# Altium schematic symbol library ZPWL.SchLib: 160 symbols (part 1 of 2)
Pins are listed as number, name and electrical type; pins without a type are passive.

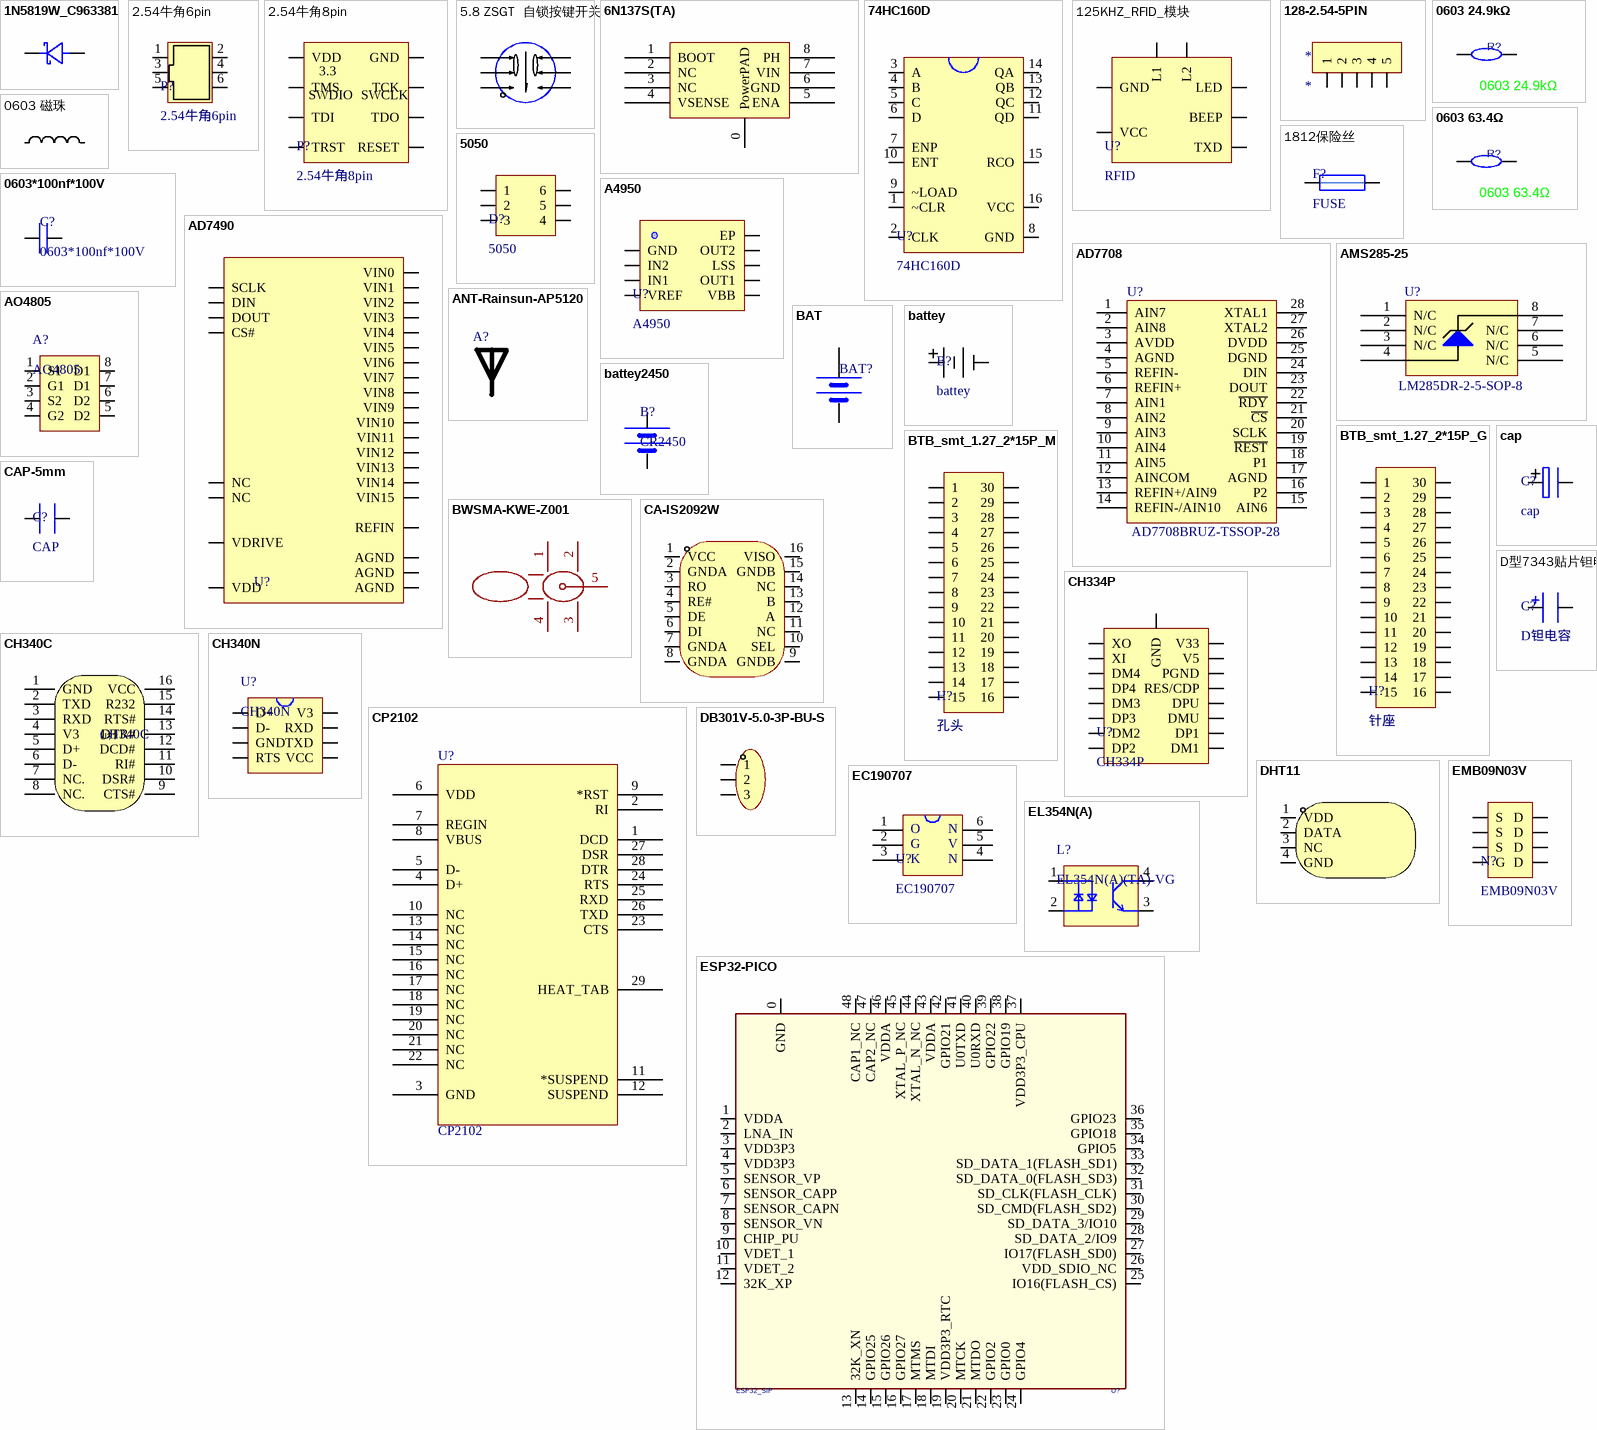
[diagram p0: symbols 1N5819W_C963381 to ESP32-PICO]

## 1N5819W_C963381
designator D??  (value not drawn)
肖特基二极管40V 平均整流电流(Io)：350mA 正向压降(Vf)：600mV@200mA; Manufacturer: JSMSEMI(杰盛微); Add into BOM: yes; Diode Configuration: 独立式; Reverse Voltage (Vr): 40V; Average Rectified Current (Io): 350mA; Reverse Leakage Current (Ir): 5uA@30V; Name: 1N5819W; Symbol: 1N5819W_C963381; Device: 1N5819W_C963381; LCSC Part Name: 40V 350mA 600mV@200mA; Supplier Part: C963381; Manufacturer Part: 1N5819W; Supplier Footprint: SOD-123; JLCPCB Part Class: Extended Part; Datasheet: https://atta.szlcsc.com/upload/public/pdf/source/20211201/C266112E93E924DFE0C071C9A8E85281.pdf; Supplier: LCSC; Convert to PCB: yes; Forward Voltage (Vf@If): 600mV@200mA
footprint SOD-123_L2.7-W1.6-LS3.7-R-RD
3D model SOD-123_L2.7-W1.6-H1.2-LS3.7-R-RD
pins: 1 A, 2 C

## 2.54牛角6pin
designator P?
footprint DC-6pin-2.54
pins: 1 ~{O}E, 2 ~{O}E, 3 ~{O}E, 4 ~{O}E, 5 ~{O}E, 6 ~{O}E

## 2.54牛角8pin
designator P?
footprint DC-8pin-2.54
footprint DC-8pin-2.54_SMT
pins: 1 VDD, 2 TMS, 3 TDI, 4 TRST, 5 RESET, 6 TDO, 7 TCK, 8 GND
text: 3.3; SWDIO; SWCLK

## 5.8 ZSGT  自锁按键开关
designator SW?, comment 5.8 ZSGT  (value not drawn)
额定电压 (DC)：30V 电路结构：双刀双掷 安装方式：直插 自锁/无锁：自锁; Manufacturer: SHOU HAN(首韩); Add into BOM: yes; Contact Current: 110mA; Voltage Rating (DC): 30V; Insulation Resistance: 100MΩ; Circuit: 双刀双掷; Self Lock / No Lock: 自锁; Actuator Style: 方形按钮; Actuator/Cap Color: 白色; With Lamp: 无; Pin Style: PC引脚; Operating Force: 150gf@±50gf; Mechanical Life: 100000; Name: 5.8 ZSGT; Symbol: 5.8 ZSGT; Device: 5.8 ZSGT; LCSC Part Name: 5.8*5.8有头/高头 带锁/自锁开关 泡泡机开关; Supplier Part: C2681587; Manufacturer Part: 5.8 ZSGT; Supplier Footprint: 插件; JLCPCB Part Class: Extended Part; Datasheet: https://atta.szlcsc.com/upload/public/pdf/source/20210107/C2681587_CDDDDA4A1C7AC9FEB01815B75893A6BA.pdf; Supplier: LCSC; Convert to PCB: yes; Mounting Style: 直插; Operating Temperature: -10℃~+70℃
footprint SW-TH_5.8ZSGT
pins: 1, 2, 3, 4, 5, 6

## 6N137S(TA)
designator U??  (value not drawn)
DC输入 1通道 隔离电压(rms):5000V; Manufacturer: EVERLIGHT(亿光); Add into BOM: yes; Input Type: DC; Isolation Voltage(rms): 5kV; Common Mode Transient Immunity (CMTI): 5kV/us; Data Rate: 10Mbit/s; Propagation Delay tpLH/tpHL: 75ns；75ns; Number of Channels: 1; Symbol: 6N137S(TA); Device: 6N137S(TA); LCSC Part Name: DC输入 1通道 隔离电压(rms):5000V; Supplier Part: C16496; Manufacturer Part: 6N137S(TA); Supplier Footprint: SOP-8-2.54mm; JLCPCB Part Class: Extended Part; Datasheet: https://atta.szlcsc.com/upload/public/pdf/source/20130927/1457706651778.pdf; Supplier: LCSC; Convert to PCB: yes; Supply Voltage: -; Operating Temperature: -40℃~+85℃
footprint SMD-8_L9.8-W6.6-P2.54-LS10.3-BL
pins: 0 PowerPAD, 1 BOOT, 2 NC, 3 NC, 4 VSENSE, 5 ENA, 6 GND, 7 VIN, 8 PH

## 74HC160D
designator U?
计数器，十进制
footprint SOIC-16_208mil
pins: 1 ~CLR, 2 CLK, 3 A, 4 B, 5 C, 6 D, 7 ENP, 8 GND, 9 ~LOAD, 10 ENT, 11 QD, 12 QC, 13 QB, 14 QA, 15 RCO, 16 VCC

## 125KHZ_RFID_模块
designator U?, comment RFID
footprint 125KHZ_RFID
pins: 1 GND, 2 VCC, 3 TXD, 4 LED, 5 BEEP, 6 L1, 7 L2

## 128-2.54-5PIN
designator *
footprint 128-2354-5pin
pins: 1, 2, 3, 4, 5

## 0603 24.9kΩ
designator R?
0603WAF2492T5E; Symbol: 0603WAF2492T5E; Supplier Part: C25962
footprint R0603
pins: 1, 2

## 0603 63.4Ω
designator R?
0805W8F634JT5E; Symbol: 0805W8F634JT5E; Supplier Part: C17786
footprint R0603
pins: 1, 2

## 0603 磁珠
designator L?, comment MPZ1608S221ATD25  (value not drawn)
220Ω@100MHz / 特性：电源线降噪解决方案。 与MMZ系列相比，具有低直流电阻，适合大电流，低功耗。 5种不同特性的材料，具有多种频率特性，可应对从一般信号到高速信号的各种情况。 在需要低直流电阻的信号线中也能表现出色。 工作温度范围：-55℃至+125℃。应用：各种ECU。 动力系统; Symbol: MPZ1608S221ATD25; Supplier Part: C307771
footprint L0603
pins: 1, 2

## 0603*100nf*100V
designator C?
CL10B104KC8NNNC; Supplier Part: C15725
footprint L0603
pins: 1, 2

## 1812保险丝
designator F?, comment FUSE
footprint 1812_R
pins: 1, 2

## 5050
designator D?
footprint 5050
pins: 1, 2, 3, 4, 5, 6

## A4950
designator U?
电机驱动; SuppliersPartNumber: C82404
footprint SOIC-8_EP_150mil
pins: 0 EP, 1 GND, 2 IN2, 3 IN1, 4 VREF, 5 VBB, 6 OUT1, 7 LSS, 8 OUT2

## AD7490
designator U?  (value not drawn)
集成电路-数模转换器
footprint TSSOP-28
pins: 1 VIN11, 2 VIN10, 3 VIN9, 4 NC, 5 VIN8, 6 VIN7, 7 VIN6, 8 VIN5, 9 VIN4, 10 VIN3, 11 VIN2, 12 VIN1, 13 VIN0, 14 AGND, 15 DOUT, 16 SCLK, 17 VDRIVE, 18 NC, 19 DIN, 20 CS#, 21 AGND, 22 VDD, 23 REFIN, 24 AGND, 25 VIN15, 26 VIN14, 27 VIN13, 28 VIN12

## AD7708
designator U?  value AD7708BRUZ-TSSOP-28  (hidden comment: AD7708)
集成电路-数模转换器; ERP: 19LJ082083A
footprint SSOP-28_150mil
pins: 1 AIN7, 2 AIN8, 3 AVDD, 4 AGND, 5 REFIN-, 6 REFIN+, 7 AIN1, 8 AIN2, 9 AIN3, 10 AIN4, 11 AIN5, 12 AINCOM, 13 REFIN+/AIN9, 14 REFIN-/AIN10, 15 AIN6, 16 P2, 17 AGND, 18 P1, 19 ~{REST}, 20 SCLK, 21 ~{CS}, 22 ~{RDY}, 23 DOUT, 24 DIN, 25 DGND, 26 DVDD, 27 XTAL2, 28 XTAL1

## AMS285-25
designator U?  value LM285DR-2-5-SOP-8  (hidden comment: AMS285-25)
贴片集成电路-2.5V基准源; ERP: 19LJ082079A
footprint SOIC-8_150mil
pins: 1 N/C, 2 N/C, 3 N/C, 4 D, 5 N/C, 6 N/C, 7 N/C, 8 +

## ANT-Rainsun-AP5120
designator A?, comment RAINSUN  (value not drawn)
贴片天线
footprint ANT-Rainsun-AN5120 (选择焊盘)
pins: 1

## AO4805
designator A?
footprint SOP-8
pins: 1 S1, 2 G1, 3 S2, 4 G2, 5 D2, 6 D2, 7 D1, 8 D1

## BAT
designator BAT?, comment BATT  (value not drawn)
2032
footprint BATM (BAT)
footprint BATM
pins: 1 VCC, 2 GND

## battey
designator B?
CR1220
footprint CR1220
pins: 1 +, 2 +

## battey2450
designator B?, comment CR2450
footprint CR2450 (直插纽扣电池封装)
pins: 1 VCC, 2 GND

## BTB_smt_1.27_2*15P_G
designator H?, comment 针座
BTB_smt_1.27_2*15P 针座; ComponentLink1Description: New link; ComponentLink1URL: https://item.taobao.com/item.htm?from=cart&id=723987452082&mi_id=0000uzHv_H4SZEBBZJydBcNrsa2I-JF1swYo3iQjQCC8BbU&skuId=5033511081840&spm=a1z0d.6639537%2F202410.item.d723987452082.33ab74840d0S1b&upStreamPrice=140
footprint header_2*15p_1.27mm_g (公座)
pins: 1, 2, 3, 4, 5, 6, 7, 8, 9, 10, 11, 12, 13, 14, 15, 16, 17, 18, 19, 20, 21, 22, 23, 24, 25, 26, 27, 28, 29, 30

## BTB_smt_1.27_2*15P_M
designator H?, comment 孔头
BTB_smt_1.27_2*15P 孔头; ComponentLink1Description: New link; ComponentLink1URL: https://item.taobao.com/item.htm?from=cart&id=723987452082&mi_id=0000uzHv_H4SZEBBZJydBcNrsa2I-JF1swYo3iQjQCC8BbU&skuId=5033511081840&spm=a1z0d.6639537%2F202410.item.d723987452082.33ab74840d0S1b&upStreamPrice=140
footprint header_2*15p_1.27mm_m (母头)
pins: 1, 2, 3, 4, 5, 6, 7, 8, 9, 10, 11, 12, 13, 14, 15, 16, 17, 18, 19, 20, 21, 22, 23, 24, 25, 26, 27, 28, 29, 30

## BWSMA-KWE-Z001
designator RF?  (value not drawn)
SMA头子 直脚弯头 板端座子 天线连接座 0.15dB(6GHz)插入损耗; Symbol: BWSMA-KWE-Z001; Supplier Part: C496551
footprint SMA-TH_BWSMA-KWE-Z001
pins: 1, 2, 3, 4, 5

## CA-IS2092W
designator U??  (value not drawn)
CA-IS2092W 集成隔离电源的隔离式 RS-485/RS-422 收发器3.3V；5V; Manufacturer: Chipanalog(川土微); Add into BOM: yes; Symbol: CA-IS2092W; Device: CA-IS2092W; LCSC Part Name: CA-IS2092W 集成隔离电源的隔离式 RS-485/RS-422 收发器; Supplier Part: C5121950; Manufacturer Part: CA-IS2092W; Supplier Footprint: SOIC-16-WB; JLCPCB Part Class: Extended Part; Datasheet: https://atta.szlcsc.com/upload/public/pdf/source/20220728/B78FE10BFEDFECC3280DFE09048A40B7.pdf; Supplier: LCSC; Convert to PCB: yes
footprint SOIC-16_L10.3-W7.5-P1.27-LS10.3-BL-1
pins: 1 VCC, 2 GNDA, 3 RO, 4 RE#, 5 DE, 6 DI, 7 GNDA, 8 GNDA, 9 GNDB, 10 SEL, 11 NC, 12 A, 13 B, 14 NC, 15 GNDB, 16 VISO

## cap
designator C?
电容 贴插
footprint cap
pins: 1, 2

## CAP-5mm
designator C?, comment CAP
金属化聚酯薄膜电容
footprint 金属化聚酯薄膜电容
pins: 1, 2

## CH334P
designator U?
CH334和CH335是符合USB2.0协议规范的4端口USBHUB控制器芯片，上行端口支持USB2.0高速和全速，下行端口支持USB2.0高速480Mbps、全速12Mbps和低速1.5Mbps。; Supplier Part: C5373042
footprint QFN-16_3x3x05P (QFN, 16-Leads, Body 3.00x3.00mm, Pitch 0.50mm, Thermal Pad 1.70x1.70mm, IPC Medium Density)
pins: 1 XO, 2 XI, 3 DM4, 4 DP4, 5 DM3, 6 DP3, 7 DM2, 8 DP2, 9 DM1, 10 DP1, 11 DMU, 12 DPU, 13 RES/CDP, 14 PGND, 15 V5, 16 V33, 17 GND

## CH340C
designator U??
USB 2.0 数据速率：2Mbps USB转串口芯片 CH340; Manufacturer: WCH(南京沁恒); Add into BOM: yes; Applications Function: 收发器; Protocol: USB 2.0; Data Rate: 2Mbps; Supply Voltage: 3.3V；5V; Name: CH340C; Symbol: CH340C; Device: CH340C; LCSC Part Name: CH340C USB转串口芯片 CH340; Supplier Part: C84681; Manufacturer Part: CH340C; Supplier Footprint: SOP-16; JLCPCB Part Class: Extended Part; Datasheet: https://atta.szlcsc.com/upload/public/pdf/source/20200819/C84681_ADBED554CE321879DBD6B1D06488689C.pdf; Supplier: LCSC; Convert to PCB: yes
footprint SOP-16_L10.0-W3.9-P1.27-LS6.0-BL
3D model SOP-16_L9.9-W3.9-H1.5-LS6.0-P1.27
pins: 1 GND, 2 TXD, 3 RXD, 4 V3, 5 D+, 6 D-, 7 NC., 8 NC., 9 CTS#, 10 DSR#, 11 RI#, 12 DCD#, 13 DTR#, 14 RTS#, 15 R232, 16 VCC

## CH340N
designator U?
8引脚 USB 转TTL
footprint SOP-8
pins: 1 D+, 2 D-, 3 GND, 4 RTS, 5 VCC, 6 TXD, 7 RXD, 8 V3

## CP2102
designator U?
USB转TTL; PART DESC: SINGLE-CHIP USB TO UART BRIDGE, QFN28, RoHS.; MFG #1: SILICON LABS; PART NUMBER: CP2102; RefDes: RefDes; Type: DEV; SuppliersPartNumber: C964632
footprint QFN-28
pins: 1 DCD, 2 RI, 3 GND, 4 D+, 5 D-, 6 VDD, 7 REGIN, 8 VBUS, 9 *RST, 10 NC, 11 *SUSPEND, 12 SUSPEND, 13 NC, 14 NC, 15 NC, 16 NC, 17 NC, 18 NC, 19 NC, 20 NC, 21 NC, 22 NC, 23 CTS, 24 RTS, 25 RXD, 26 TXD, 27 DSR, 28 DTR, 29 HEAT_TAB

## DB301V-5.0-3P-BU-S
designator U??  (value not drawn)
5mm 结构：1x3P; Manufacturer: DIBO(地博电气); Add into BOM: yes; Structure: 1x3P; Number of PINs Per Row: 3; Current Rating (Max): 17.5A; Voltage Rating (Max): 250V; Wire Gauge - AWG: 14~22; Wire Gauge - mm2: 1.5; Name: DB301V-5.0-3P-BU-S; Symbol: DB301V-5.0-3P; Device: DB301V-5.0-3P-BU-S; LCSC Part Name: 5mm 1x3P 排数:1 每排P数:3 直针; Supplier Part: C395881; Manufacturer Part: DB301V-5.0-3P-BU-S; Supplier Footprint: 插件,P=5mm; JLCPCB Part Class: Extended Part; Datasheet: https://atta.szlcsc.com/upload/public/pdf/source/20230321/D511151DA9A574FE7610C3CBEF6C1AC3.pdf; Supplier: LCSC; Convert to PCB: yes; Pitch: 5mm; Number of Rows: 1; Mounting Style: 直针; Operating Temperature Range: -40℃~+120℃; Color: 蓝色; Number of Pins: 3P
footprint CONN-TH_DB301V-5.0-3P
3D model CONN-TH_DB301V-5.0-3P
pins: 1, 2, 3

## DHT11
designator U??  (value not drawn)
温湿度传感器; Manufacturer: 广州奥松; Add into BOM: yes; Name: DHT11; Symbol: DHT11; Device: DHT11; LCSC Part Name: DHT11  电容式传感器; Supplier Part: C117051; Manufacturer Part: DHT11; Supplier Footprint: SIP-4; JLCPCB Part Class: Extended Part; Datasheet: https://atta.szlcsc.com/upload/public/pdf/source/20170703/1499081238365.pdf; Supplier: LCSC; Convert to PCB: yes
footprint SENSOR-TH_DHT11
3D model SENSOR-TH_DHT11
pins: 1 VDD, 2 DATA, 3 NC, 4 GND

## D型7343贴片钽电容
designator C?, comment D钽电容
footprint CASE-D_7343
pins: 1, 2

## EC190707
designator U?
开关机芯片
footprint SOT-23-6
pins: 1 OUT, 2 GND, 3 KEY, 4 NC, 5 VDD, 6 NC
text: O; N; G; V; K

## EL354N(A)
designator L?, comment EL354N(A)(TA)-VG
交流光耦; Supplier: LC; ComponentLink1Description: New link; ComponentLink1URL: https://item.szlcsc.com/44305078.html?fromZone=s_s__%2522%25E4%25BA%25A4%25E6%25B5%2581%25E5%2585%2589%25E8%2580%25A6%2522&spm=sc.gbn.xh1.zy.t&lcsc_vid=QwQLVlRfEVcLX1xeTlZYVQBeRAMLUwFUEwRYUgVfRAQxVlNQQVJXUFRXQlZcUzsOAxUeFF5JWBIBSRccGwIdBEoFGAxBAAgJFQACSQwSGg0%3D; SuppliersPartNumber: C42384996
footprint SOP-4_P2.54
pins: 1, 2, 3, 4

## EMB09N03V
designator N?
N沟道 30V 20A
footprint EDFN(3x3)
pins: 1 S, 2 S, 3 S, 4 G, 5 D, 6 D, 7 D, 8 D

## ESP32-PICO
designator U?, comment ESP32_SIP
贴片处理器ESP32
footprint QFN-48_7X7
pins: 0 GND (power), 1 VDDA (power), 2 LNA_IN, 3 VDD3P3 (power), 4 VDD3P3 (power), 5 SENSOR_VP, 6 SENSOR_CAPP, 7 SENSOR_CAPN, 8 SENSOR_VN, 9 CHIP_PU, 10 VDET_1, 11 VDET_2, 12 32K_XP, 13 32K_XN, 14 GPIO25, 15 GPIO26, 16 GPIO27, 17 MTMS, 18 MTDI, 19 VDD3P3_RTC (power), 20 MTCK, 21 MTDO, 22 GPIO2, 23 GPIO0, 24 GPIO4, 25 IO16(FLASH_CS), 26 VDD_SDIO_NC, 27 IO17(FLASH_SD0), 28 SD_DATA_2/IO9, 29 SD_DATA_3/IO10, 30 SD_CMD(FLASH_SD2), 31 SD_CLK(FLASH_CLK), 32 SD_DATA_0(FLASH_SD3), 33 SD_DATA_1(FLASH_SD1), 34 GPIO5, 35 GPIO18, 36 GPIO23, 37 VDD3P3_CPU (power), 38 GPIO19, 39 GPIO22, 40 U0RXD (power), 41 U0TXD (power), 42 GPIO21, 43 VDDA (power), 44 XTAL_N_NC, 45 XTAL_P_NC, 46 VDDA (power), 47 CAP2_NC, 48 CAP1_NC

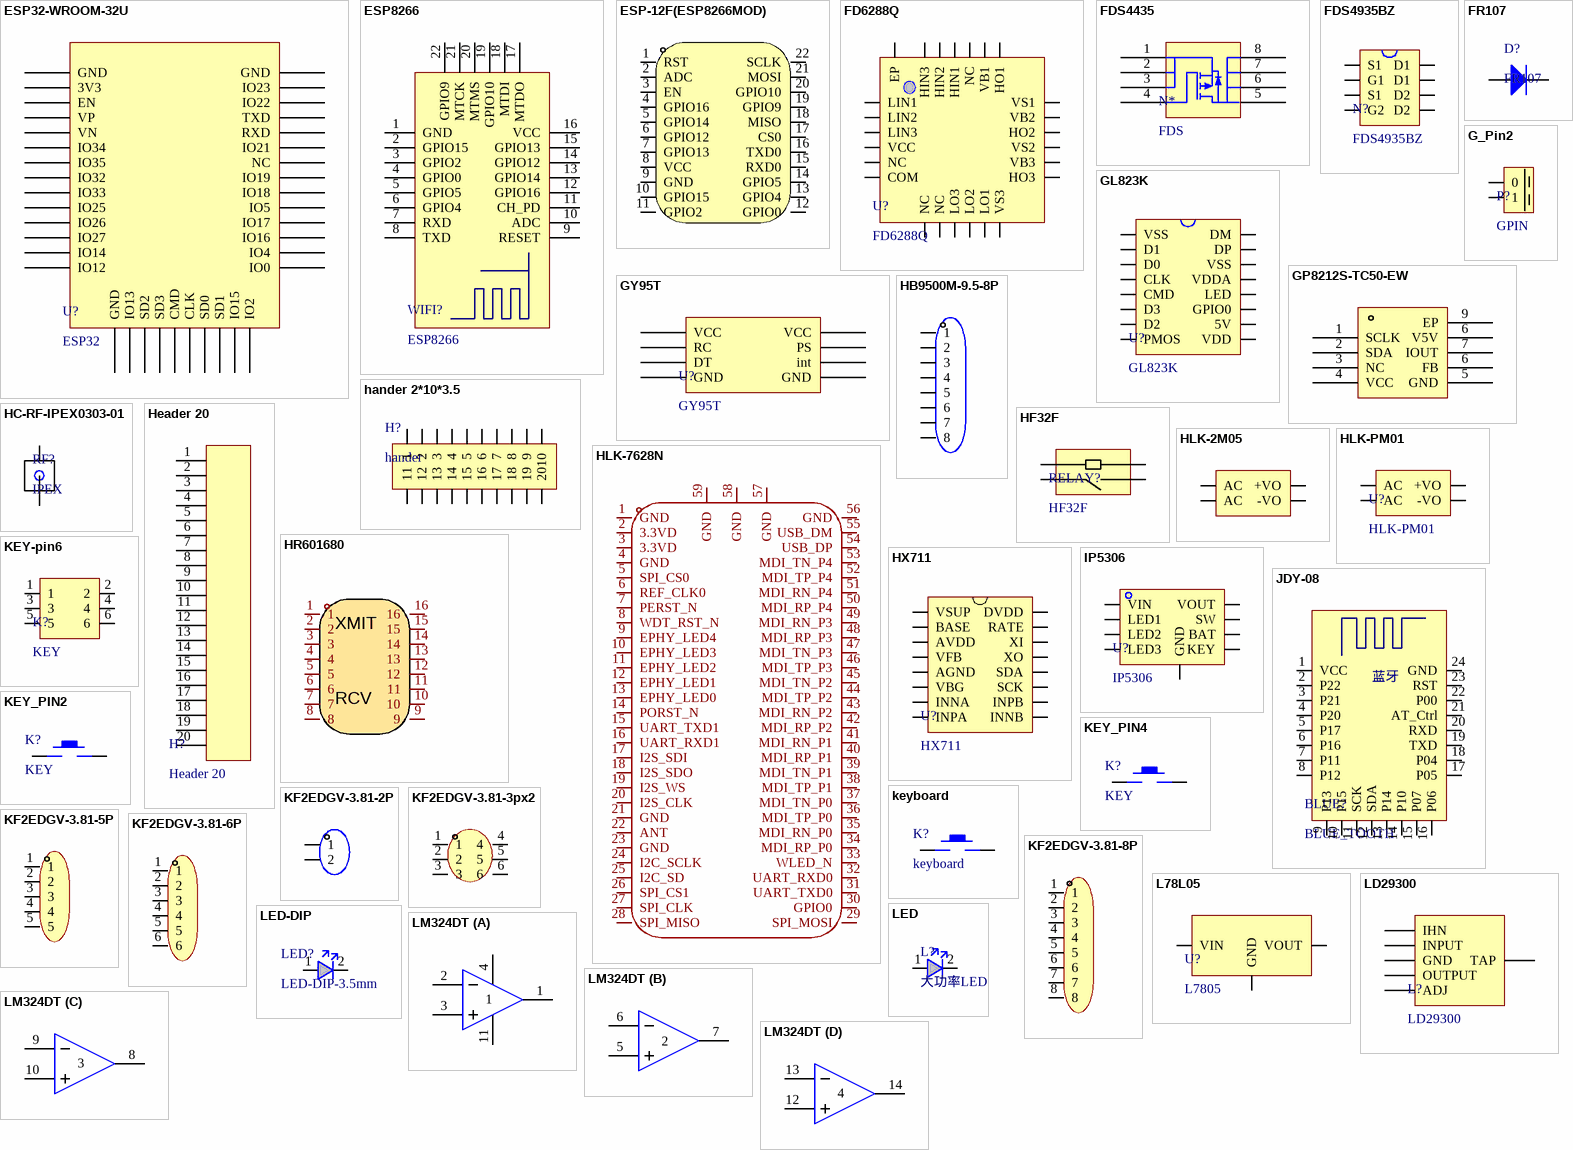
[diagram p1: symbols ESP32-WROOM-32U to LM324DT]

## ESP32-WROOM-32U
designator U?, comment ESP32
ESP32-模块
footprint ESP32-WROOM-32U
pins: 1 GND, 2 3V3, 3 EN, 4 VP, 5 VN, 6 IO34, 7 IO35, 8 IO32, 9 IO33, 10 IO25, 11 IO26, 12 IO27, 13 IO14, 14 IO12, 15 GND, 16 IO13, 17 SD2, 18 SD3, 19 CMD, 20 CLK, 21 SD0, 22 SD1, 23 IO15, 24 IO2, 25 IO0, 26 IO4, 27 IO16, 28 IO17, 29 IO5, 30 IO18, 31 IO19, 32 NC, 33 IO21, 34 RXD, 35 TXD, 36 IO22, 37 IO23, 38 GND

## ESP8266
designator WIFI?
footprint ESP8266
pins: 1 GND, 2 GPIO15, 3 GPIO2, 4 GPIO0, 5 GPIO5, 6 GPIO4, 7 RXD, 8 TXD, 9 RESET, 10 ADC, 11 CH_PD, 12 GPIO16, 13 GPIO14, 14 GPIO12, 15 GPIO13, 16 VCC, 17 MTDO, 18 MTDI, 19 GPIO10, 20 MTMS, 21 MTCK, 22 GPIO9

## ESP-12F(ESP8266MOD)
designator U??  (value not drawn)
ESP8266 天线形式：板载PCB天线; Manufacturer: Ai-Thinker(安信可); Name: 2.4GHz; Add into BOM: yes; Value: 2.4GHz; Output Power: 16dBm; Support Interface: GPIO；UART；I2C；PWM；SPI；ADC; Antenna Type: PCB 板载天线; Wireless Standard: 802.11b/g/n; Operating Voltage: 3.3V; Receive  Current: 120mA; Send  Current: 170mA; Sensitivity: -90dBm; Symbol: ESP-12F(ESP8266MOD); Device: ESP-12F(ESP8266MOD); LCSC Part Name: 完整的802.11b/g/n Wi-Fi的SoC模块; Supplier Part: C82891; Manufacturer Part: ESP-12F(ESP8266MOD); Supplier Footprint: SMD,16x24mm; JLCPCB Part Class: Extended Part; Datasheet: https://atta.szlcsc.com/upload/public/pdf/source/20210219/C82891_ABD84A460F4F056A2757267CCCA4B508.pdf; Supplier: LCSC; Convert to PCB: yes; Core Processor: ESP8266; Operating Temperature: -40℃~+85℃
footprint WIFIM-SMD_ESP-12F-ESP8266MOD
3D model WIFIM-SMD_WIFI-L24.0-W16.0-H3.1
pins: 1 RST, 2 ADC, 3 EN, 4 GPIO16, 5 GPIO14, 6 GPIO12, 7 GPIO13, 8 VCC, 9 GND, 10 GPIO15, 11 GPIO2, 12 GPIO0, 13 GPIO4, 14 GPIO5, 15 RXD0, 16 TXD0, 17 CS0, 18 MISO, 19 GPIO9, 20 GPIO10, 21 MOSI, 22 SCLK

## FD6288Q
designator U?
三相栅极驱动器
footprint QFN24
pins: 1 LIN1, 2 LIN2, 3 LIN3, 4 VCC, 5 NC, 6 COM, 7 NC, 8 NC, 9 LO3, 10 LO2, 11 LO1, 12 VS3, 13 HO3, 14 VB3, 15 VS2, 16 HO2, 17 VB2, 18 VS1, 19 HO1, 20 VB1, 21 NC, 22 HIN1, 23 HIN2, 24 HIN3, 25 EP

## FDS4435
designator N*, comment FDS
P沟道 场效应管
footprint SOP-8
pins: 1, 2, 3, 4, 5, 6, 7, 8

## FDS4935BZ
designator N?
双P沟道
footprint SOIC-8_150mil
pins: 1 S1, 2 G1, 3 S1, 4 G2, 5 D2, 6 D2, 7 D1, 8 D1

## FR107
designator D?
快恢复二级管
footprint DO-41(400mils) (DO-41)
footprint SOD123FL
pins: 1 A, 2 K

## G_Pin2
designator P?, comment GPIN
footprint G_Pin2
pins: 0, 1

## GL823K
designator U?
GL823K 是一款 USB 2.0 单 LUN 卡读取控制器，支持多种闪存卡接口。; Supplier Part: C284879
footprint SSOP-16_150mil
pins: 1 VSS, 2 D1, 3 D0, 4 CLK, 5 CMD, 6 D3, 7 D2, 8 PMOS, 9 VDD, 10 5V, 11 GPIO0, 12 LED, 13 VDDA, 14 VSS, 15 DP, 16 DM

## GP8212S-TC50-EW
designator U?  (value not drawn)
I2C信号转模拟信号转换器,将数据线性转换成4-20mA/0-20mA的模拟电流输出; Manufacturer: Guestgood(客益); Add into BOM: yes; Symbol: GP8212S-TC50-EW; Device: GP8212S-TC50-EW; LCSC Part Name: I2C信号转模拟电流信号; Supplier Part: C3152009; Manufacturer Part: GP8212S-TC50-EW; Supplier Footprint: ESOP-8; JLCPCB Part Class: Extended Part; Datasheet: https://atta.szlcsc.com/upload/public/pdf/source/20230222/C8174B632BCF97C38C08BC64AAE9B7A8.pdf; Supplier: LCSC; Convert to PCB: yes
footprint ESOP-8_L4.9-W3.9-P1.27-LS6.0-BL-EP
pins: 1 SCLK, 2 SDA, 3 NC, 4 VCC, 5 GND, 6 V5V, 6 FB, 7 IOUT, 9 EP

## GY95T
designator U?
三轴陀螺仪
footprint GY95T (三轴陀螺仪)
pins: 1 VCC, 2 RC, 3 DT, 4 GND, 5 GND, 6 int, 7 PS, 8 VCC

## hander 2*10*3.5
designator H?, comment hander
footprint 10*2-3.5
pins: 1, 2, 3, 4, 5, 6, 7, 8, 9, 10, 11, 12, 13, 14, 15, 16, 17, 18, 19, 20

## HB9500M-9.5-8P
designator U?  (value not drawn)
隔板类型：带盖板 间距：9.5mm 结构：1x8P 每排PIN数：8 排数：1 安装方式：直针 引脚位置：边脚 额定电流：32A 额定电压：750V 线规 - AWG：12~22 线规 - mm2：4 工作温度范围：-40℃~+105℃ 颜色：黑色; Barrier Type: 带盖板; Pitch: 9.5mm; Structure: 1x8P; Current Rating (Max): 32A; Voltage Rating (Max): 750V; Wire Gauge - AWG: 12~22; Device: HB9500M-9.5-8P; LCSC Part Name: 9.5mm 1x8P 每排P数:8 排数:1 直针 边脚; Supplier Part: C315245; Supplier Footprint: 插件,P=9.5mm; Mounting Style: 直针; Operating Temperature Range: -40℃~+105℃
footprint HB9500M-9.5-8P
pins: 1, 2, 3, 4, 5, 6, 7, 8

## HC-RF-IPEX0303-01
designator RF?, comment IPEX
IPEX 天线座
footprint IPEX-SMD_HC-RF-IPEX0303-01
pins: 1 GND, 4 GND

## Header 20
designator H?
footprint FPC-1.0-20P
pins: 1, 2, 3, 4, 5, 6, 7, 8, 9, 10, 11, 12, 13, 14, 15, 16, 17, 18, 19, 20

## HF32F
designator RELAY?
继电器; SuppliersPartNumber: C192283
footprint RELAY-TH_HF32F-X-HXXXX-XXX
pins: 1, 2, 3, 4

## HLK-2M05
designator U?  (value not drawn)
AC-DC 5V 400mA 2W; Manufacturer: HI-LINK(海凌科); Add into BOM: yes; Function: 降压型; Isolated Or Voltage Regulation: 隔离稳压; Output Channel: 1; Input Voltage(AC): 90VAC~265VAC; Input Voltage(DC): 120V~350V; Insulated Voltage: 3kV@AC; Conversion Efficiency: 69%; Name: HLK-2M05; Symbol: HLK-2M05; Device: HLK-2M05; LCSC Part Name: AC-DC 输入90VAC~265VAC 输入120V~350V 输出5V 400mA 2W; Supplier Part: C209909; Manufacturer Part: HLK-2M05; Supplier Footprint: 插件; JLCPCB Part Class: Extended Part; Datasheet: https://atta.szlcsc.com/upload/public/pdf/source/20211130/BB6CF3554B3927EB762928BD287CEFEE.pdf; Supplier: LCSC; Convert to PCB: yes; Conversion Type: AC-DC; Output Voltage: 5V; Output Current (Max): 400mA; Output Power: 2W; Feature: 过流保护；短路保护
footprint HLK-2M05
pins: 1 AC, 2 AC, 3 -VO, 4 +VO

## HLK-7628N
designator U?  (value not drawn)
百兆路由芯片; Symbol: HLK-7628N; Supplier Part: C209920
footprint 7628N
pins: 1 GND, 2 3.3VD, 3 3.3VD, 4 GND, 5 SPI_CS0, 6 REF_CLK0, 7 PERST_N, 8 WDT_RST_N, 9 EPHY_LED4, 10 EPHY_LED3, 11 EPHY_LED2, 12 EPHY_LED1, 13 EPHY_LED0, 14 PORST_N, 15 UART_TXD1, 16 UART_RXD1, 17 I2S_SDI, 18 I2S_SDO, 19 I2S_WS, 20 I2S_CLK, 21 GND, 22 ANT, 23 GND, 24 I2C_SCLK, 25 I2C_SD, 26 SPI_CS1, 27 SPI_CLK, 28 SPI_MISO, 29 SPI_MOSI, 30 GPIO0, 31 UART_TXD0, 32 UART_RXD0, 33 WLED_N, 34 MDI_RP_P0, 35 MDI_RN_P0, 36 MDI_TP_P0, 37 MDI_TN_P0, 38 MDI_TP_P1, 39 MDI_TN_P1, 40 MDI_RP_P1, 41 MDI_RN_P1, 42 MDI_RP_P2, 43 MDI_RN_P2, 44 MDI_TP_P2, 45 MDI_TN_P2, 46 MDI_TP_P3, 47 MDI_TN_P3, 48 MDI_RP_P3, 49 MDI_RN_P3, 50 MDI_RP_P4, 51 MDI_RN_P4, 52 MDI_TP_P4, 53 MDI_TN_P4, 54 USB_DP, 55 USB_DM, 56 GND, 57 GND, 58 GND, 59 GND

## HLK-PM01
designator U?
AC-DC 5V 600mA 3W; SuppliersPartNumber: C209903
footprint HLK-PM01
pins: 1 AC, 2 AC, 3 -VO, 4 +VO

## HR601680
designator L?
网口变压器; Symbol: HR601680
footprint XFMR-SMD_BT16XX
pins: 1, 2, 3, 4, 5, 6, 7, 8, 9, 10, 11, 12, 13, 14, 15, 16
text: XMIT; RCV

## HX711
designator U?
差分 ADC传感器; SuppliersPartNumber: C43656
footprint SOP-16_150mil
pins: 1 VSUP, 2 BASE, 3 AVDD, 4 VFB, 5 AGND, 6 VBG, 7 INNA, 8 INPA, 9 INNB, 10 INPB, 11 SCK, 12 SDA, 13 XO, 14 XI, 15 RATE, 16 DVDD

## IP5306
designator U?
充电宝芯片
footprint SOIC-8_EP_150mil
pins: 0 GND, 1 VIN, 2 LED1, 3 LED2, 4 LED3, 5 KEY, 6 BAT, 7 SW, 8 VOUT

## JDY-08
designator BLUE?, comment BLUE_TOOTH
蓝牙
footprint CC2541
pins: 1 VCC, 2 P22, 3 P21, 4 P20, 5 P17, 6 P16, 7 P11, 8 P12, 9 P13, 10 P15, 11 SCK, 12 SDA, 13 P14, 14 P10, 15 P07, 16 P06, 17 P05, 18 P04, 19 TXD, 20 RXD, 21 AT_Ctrl, 22 P00, 23 RST, 24 GND

## KEY-pin6
designator K?, comment KEY
自锁 6脚
footprint key3
pins: 1, 2, 3, 4, 5, 6

## KEY_PIN2
designator K?, comment KEY
微动 贴片2脚
footprint KEY2
footprint KEY_贴片_pin4
pins: 1, 2

## KEY_PIN4
designator K?, comment KEY
微动按键开关 4脚
footprint KEY1
footprint KEY-12*12-pin4
pins: 1, 2

## keyboard
designator K?
橡胶按键
footprint keyboard
pins: 1, 2

## KF2EDGV-3.81-2P
designator CN??  (value not drawn)
插拔式接线端子 3.81mm 1x2P 直针; Manufacturer: KEFA(科发); Add into BOM: yes; Connector Type: 板端/插座-闭口; Number of PINs Per Row: 2; Current Rating (Max): 8A; Voltage Rating (Max): 300V; Symbol: KF2EDGV-3.81-2P; Device: KF2EDGV-3.81-2P; LCSC Part Name: 3.81mm 1x2P 排数:1 每排P数:2; Supplier Part: C441332; Manufacturer Part: KF2EDGV-3.81-2P; Supplier Footprint: 插件,P=3.81mm; JLCPCB Part Class: Extended Part; Datasheet: https://atta.szlcsc.com/upload/public/pdf/source/20230331/99AB14A2E5FD5FFB40E14C447652EA65.pdf; Supplier: LCSC; Convert to PCB: yes; Structure: 1x2P; Pitch: 3.81mm; Color: 绿色; Mounting Style: 直针; Number of Pins: 2P; Number of Rows: 1; Operating Temperature Range: -40℃~+105℃
footprint CONN-TH_2P-P3.81_KF2EDGV-3.81-2P
pins: 1, 2

## KF2EDGV-3.81-3px2
designator CN?, comment KF2EDGV-3.81-6P  (value not drawn)
KF2EDGV-3.81-3Px2; Manufacturer: KEFA(科发); Add into BOM: yes; Connector Type: 板端/插座-闭口; Structure: 1x6P; Pitch: 3.81mm; Number of PINs Per Row: 6; Current Rating (Max): 8A; Voltage Rating (Max): 300V; Symbol: KF2EDGV-3.81-6P; Device: KF2EDGV-3.81-6P; LCSC Part Name: 3.81mm 1x6P 排数:1 每排P数:6; Supplier Part: C441336; Manufacturer Part: KF2EDGV-3.81-6P; Supplier Footprint: 插件,P=3.81mm; JLCPCB Part Class: Extended Part; Datasheet: https://atta.szlcsc.com/upload/public/pdf/source/20230331/99AB14A2E5FD5FFB40E14C447652EA65.pdf; Supplier: LCSC; Convert to PCB: yes; Color: 绿色; Mounting Style: 直针; Number of Pins: 6P; Number of Rows: 1; Operating Temperature Range: -40℃~+105℃
footprint CONN-TH_6P-P3.81_KF2EDGV-3.81-3P*2
pins: 1, 2, 3, 4, 5, 6

## KF2EDGV-3.81-5P
designator CN??  (value not drawn)
Manufacturer: KEFA(科发); Add into BOM: yes; Connector Type: 板端/插座-闭口; Structure: 1x5P; Pitch: 3.81mm; Number of PINs Per Row: 5; Current Rating (Max): 8A; Voltage Rating (Max): 300V; Symbol: KF2EDGV-3.81-5P; Device: KF2EDGV-3.81-5P; LCSC Part Name: 3.81mm 1x5P 排数:1 每排P数:5; Supplier Part: C441335; Manufacturer Part: KF2EDGV-3.81-5P; Supplier Footprint: 插件,P=3.81mm; JLCPCB Part Class: Extended Part; Datasheet: https://atta.szlcsc.com/upload/public/pdf/source/20230331/99AB14A2E5FD5FFB40E14C447652EA65.pdf; Supplier: LCSC; Convert to PCB: yes; Color: 绿色; Mounting Style: 直针; Number of Pins: 5P; Number of Rows: 1; Operating Temperature Range: -40℃~+105℃
footprint CONN-TH_5P-P3.81_KF2EDGV-3.81-5P
pins: 1, 2, 3, 4, 5

## KF2EDGV-3.81-6P
designator CN??  (value not drawn)
Manufacturer: KEFA(科发); Add into BOM: yes; Connector Type: 板端/插座-闭口; Structure: 1x6P; Pitch: 3.81mm; Number of PINs Per Row: 6; Current Rating (Max): 8A; Voltage Rating (Max): 300V; Symbol: KF2EDGV-3.81-6P; Device: KF2EDGV-3.81-6P; LCSC Part Name: 3.81mm 1x6P 排数:1 每排P数:6; Supplier Part: C441336; Manufacturer Part: KF2EDGV-3.81-6P; Supplier Footprint: 插件,P=3.81mm; JLCPCB Part Class: Extended Part; Datasheet: https://atta.szlcsc.com/upload/public/pdf/source/20230331/99AB14A2E5FD5FFB40E14C447652EA65.pdf; Supplier: LCSC; Convert to PCB: yes; Color: 绿色; Mounting Style: 直针; Number of Pins: 6P; Number of Rows: 1; Operating Temperature Range: -40℃~+105℃
footprint CONN-TH_6P-P3.81_KF2EDGV-3.81-6P
pins: 1, 2, 3, 4, 5, 6

## KF2EDGV-3.81-8P
designator CN??  (value not drawn)
3.81*n; Manufacturer: KEFA(科发); Add into BOM: yes; Connector Type: 板端/插座-闭口; Structure: 1x8P; Pitch: 3.81mm; Number of PINs Per Row: 8; Current Rating (Max): 8A; Voltage Rating (Max): 300V; Symbol: KF2EDGV-3.81-8P; Device: KF2EDGV-3.81-8P; LCSC Part Name: 3.81mm 1x8P 排数:1 每排P数:8; Supplier Part: C441338; Manufacturer Part: KF2EDGV-3.81-8P; Supplier Footprint: 插件,P=3.81mm; JLCPCB Part Class: Extended Part; Datasheet: https://atta.szlcsc.com/upload/public/pdf/source/20230331/99AB14A2E5FD5FFB40E14C447652EA65.pdf; Supplier: LCSC; Convert to PCB: yes; Color: 绿色; Mounting Style: 直针; Number of Pins: 8P; Number of Rows: 1; Operating Temperature Range: -40℃~+105℃
footprint CONN-TH_8P-P3.81_KF2EDGV-3.81-8P
pins: 1, 2, 3, 4, 5, 6, 7, 8

## L78L05
designator U?, comment L7805
贴片5V稳压
footprint SOT-89(SOT-89-3)
pins: 1 VOUT, 2 GND, 3 VIN

## LD29300
designator L?
线性稳压
footprint TO-263-5
pins: 1 IHN, 2 INPUT, 3 GND, 4 OUTPUT, 5 ADJ, 6 TAP

## LED
designator L?, comment 大功率LED
Φ8直径，1~3W
footprint LED (Φ8)
pins: 1 2, 2 3

## LED-DIP
designator LED?, comment LED-DIP-3.5mm
footprint LED-DIP-3.5mm (DIP-3.5mm)
pins: 1 2, 2 3

## LM324DT
designator U??  (value not drawn)
运算放大器 4路 电压 - 电源，单/双（±）：3 V ~ 30 V，±1.5 V ~ 15 V 增益带宽积：1.3MHz; Manufacturer: ST(意法半导体); Add into BOM: yes; Number of Circuits: 四路; Gain Bandwidth Product(GBP): 1.3MHz; Current - Input Bias(Ib): 20nA; Slew Rate(SR): 0.4V/us; Output Current: 40mA; Supply Current: 1.5mA; Symbol: LM324DT; Device: LM324DT; LCSC Part Name: LM324DT; Supplier Part: C71035; Manufacturer Part: LM324DT; Supplier Footprint: SOIC-14; JLCPCB Part Class: Basic Part; Datasheet: https://atta.szlcsc.com/upload/public/pdf/source/20160408/1460100649718.pdf; Supplier: LCSC; Convert to PCB: yes; -3db Bandwidth: -; Operating Temperature: 0℃~+70℃
footprint SOIC-14_L8.7-W3.9-P1.27-LS6.0-BL
3D model SOIC-14_L8.6-W3.9-H1.8-LS6.0-P1.27
part A pins: 1 OUT1, 2 IN1-, 3 IN1+, 4 VCC+, 11 VCC-
part B pins: 5 IN2+, 6 IN2-, 7 OUT2
part C pins: 8 OUT3, 9 IN3-, 10 IN3+
part D pins: 12 IN4+, 13 IN4-, 14 OUT4

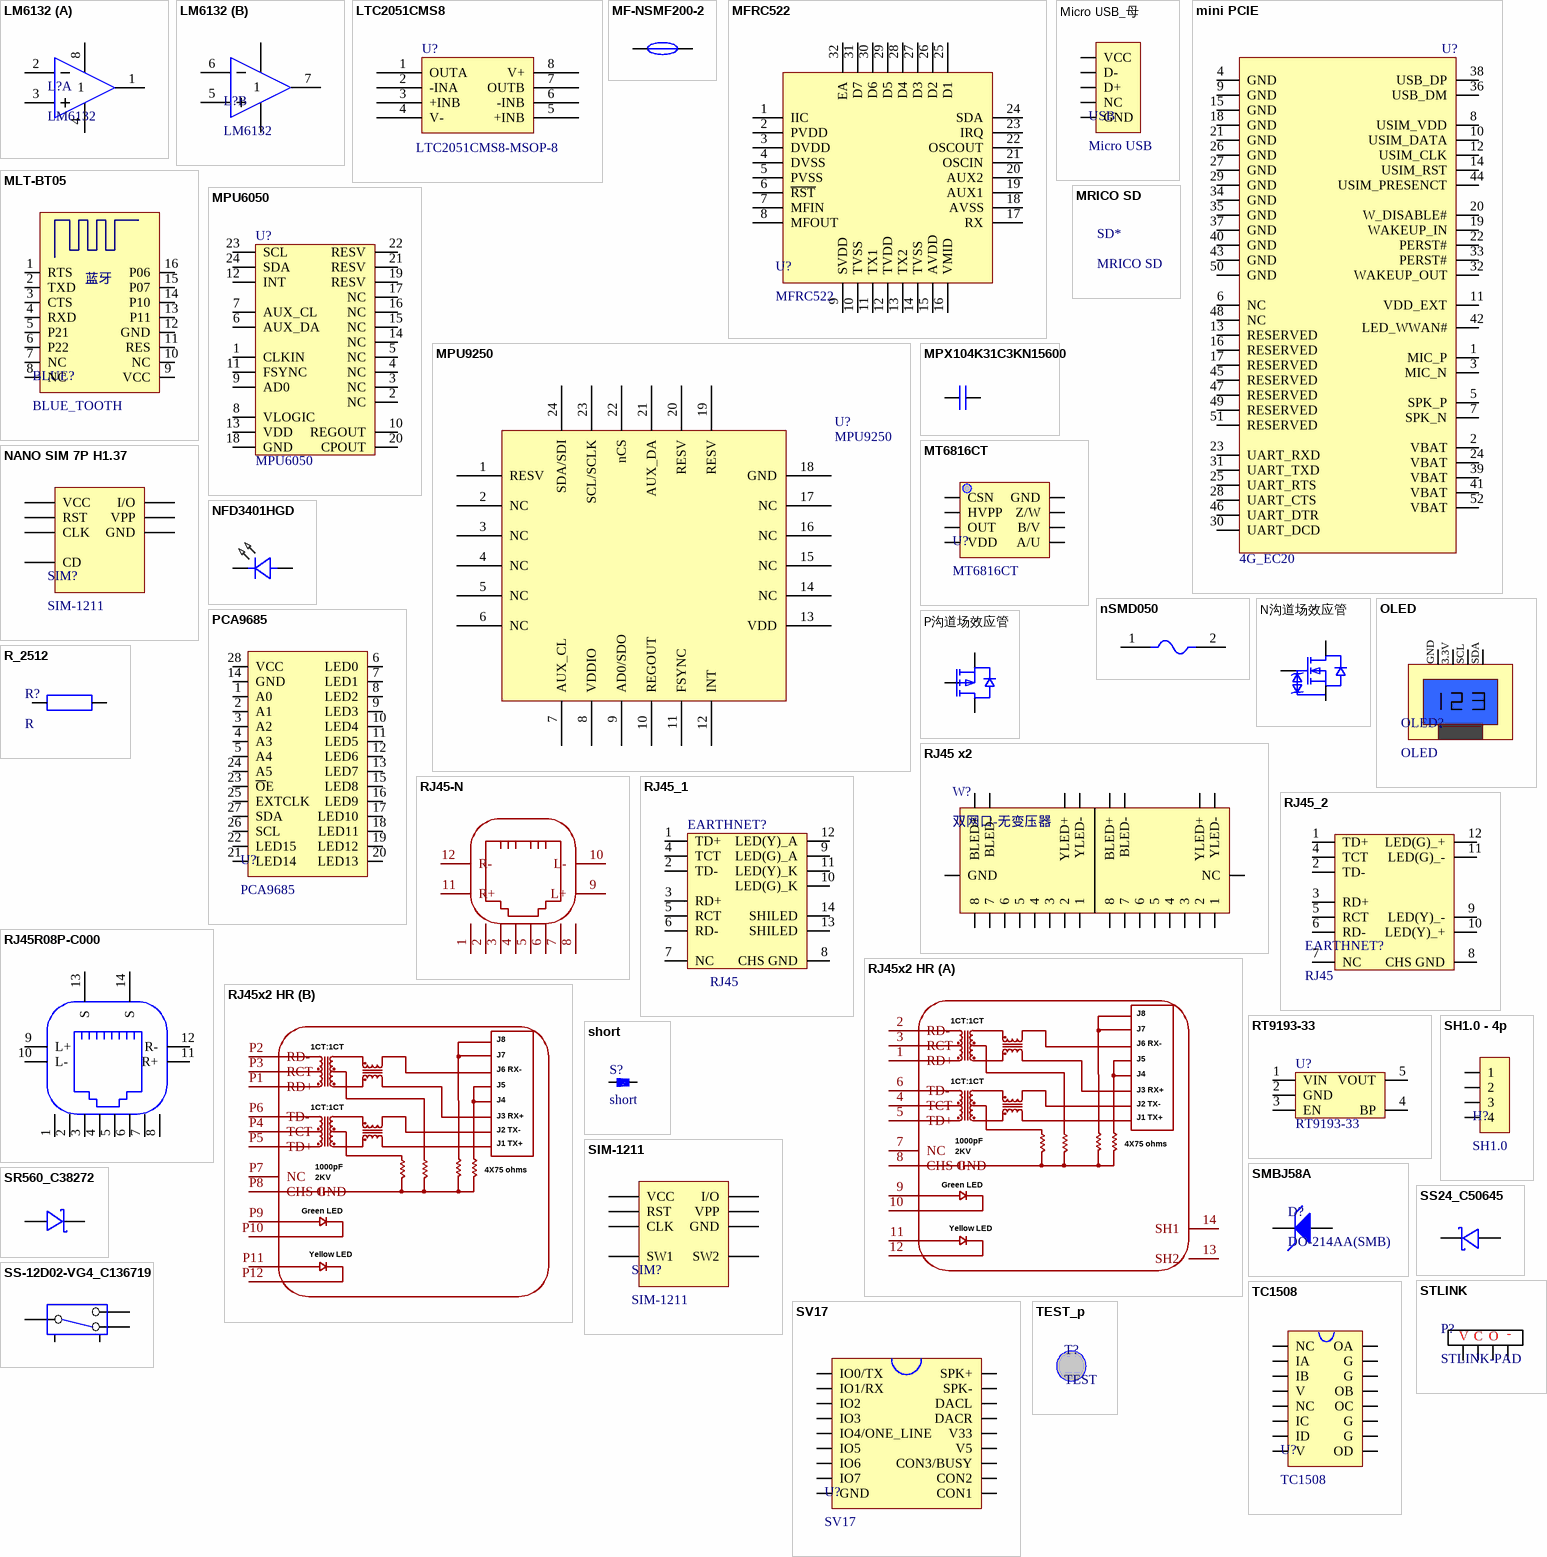
[diagram p2: symbols LM6132 to TEST_p]

## LM6132
designator L?
运算放大器 轨到轨
footprint SOIC-8_150mil
part A pins: 1 OUT1, 2 IN1-, 3 IN1+, 4 VCC-, 8 VCC+
part B pins: 4 VCC-, 5 IN1+, 6 IN1-, 7 OUT1, 8 VCC+

## LTC2051CMS8
designator U?  value LTC2051CMS8-MSOP-8  (hidden comment: LTC2051CMS8)
贴片集成电路-放大器; ERP: 19LJ082080A
footprint SO-8_3.9mm
pins: 1 OUTA, 2 -INA, 3 +INB, 4 V-, 5 +INB, 6 -INB, 7 OUTB, 8 V+

## MF-NSMF200-2
designator U??  (value not drawn)
自恢复保险丝 4A 2.0A，6V; Manufacturer: BOURNS; Add into BOM: yes; Operating Voltage (Max): 6V; Current Rating (Max): 100A; Hold Current: 2A; Resistance - Initial (Ri) (Min): 85mΩ; Resistance - Post Trip (R1) (Max): 20mΩ; Maximum Time to Trip: 1s; Name: MF-NSMF200-2; Symbol: MF-NSMF200-2; Device: MF-NSMF200-2; LCSC Part Name: 6V 2A 1206自恢复; Supplier Part: C89656; Manufacturer Part: MF-NSMF200-2; Supplier Footprint: 1206; JLCPCB Part Class: Extended Part; Datasheet: https://atta.szlcsc.com/upload/public/pdf/source/20161125/1480068355439.pdf; Supplier: LCSC; Convert to PCB: yes; Trip Current: 4A; Operating Temperature: -40℃~+85℃
footprint F1206
3D model F1206_L3.2-W1.7-H0.6
pins: 1, 2

## MFRC522
designator U?
RFID芯片; SuppliersPartNumber: C2760772
footprint MFRC522
pins: 1 IIC, 2 PVDD, 3 DVDD, 4 DVSS, 5 PVSS, 6 ~{RST}, 7 MFIN, 8 MFOUT, 9 SVDD, 10 TVSS, 11 TX1, 12 TVDD, 13 TX2, 14 TVSS, 15 AVDD, 16 VMID, 17 RX, 18 AVSS, 19 AUX1, 20 AUX2, 21 OSCIN, 22 OSCOUT, 23 IRQ, 24 SDA, 25 D1, 26 D2, 27 D3, 28 D4, 29 D5, 30 D6, 31 D7, 32 EA

## Micro USB_母
designator USB, comment Micro USB
footprint MicroUSB插座
pins: 1 VCC, 2 D-, 3 D+, 4 NC, 5 GND

## mini PCIE
designator U?, comment 4G_EC20
footprint MINI PCIE插座52P-5.2MM
pins: 1 MIC_P, 2 VBAT, 3 MIC_N, 4 GND, 5 SPK_P, 6 NC, 7 SPK_N, 8 USIM_VDD, 9 GND, 10 USIM_DATA, 11 VDD_EXT, 12 USIM_CLK, 13 RESERVED, 14 USIM_RST, 15 GND, 16 RESERVED, 17 RESERVED, 18 GND, 19 WAKEUP_IN, 20 W_DISABLE#, 21 GND, 22 PERST#, 23 UART_RXD, 24 VBAT, 25 UART_RTS, 26 GND, 27 GND, 28 UART_CTS, 29 GND, 30 UART_DCD, 31 UART_TXD, 32 WAKEUP_OUT, 33 PERST#, 34 GND, 35 GND, 36 USB_DM, 37 GND, 38 USB_DP, 39 VBAT, 40 GND, 41 VBAT, 42 LED_WWAN#, 43 GND, 44 USIM_PRESENCT, 45 RESERVED, 46 UART_DTR, 47 RESERVED, 48 NC, 49 RESERVED, 50 GND, 51 RESERVED, 52 VBAT

## MLT-BT05
designator BLUE?, comment BLUE_TOOTH
蓝牙
footprint HM_05_06_07_11
pins: 1 RTS, 2 TXD, 3 CTS, 4 RXD, 5 P21, 6 P22, 7 NC, 8 NC, 9 VCC, 10 NC, 11 RES, 12 GND, 13 P11, 14 P10, 15 P07, 16 P06

## MPU6050
designator U?
9轴运动处理传感器
footprint QFN24 (QFN, 24-Leads, Body 4.0x4.0mm (max), Pitch 0.50mm, IPC Medium Density)
pins: 1 CLKIN, 2 NC, 3 NC, 4 NC, 5 NC, 6 AUX_DA, 7 AUX_CL, 8 VLOGIC, 9 AD0, 10 REGOUT, 11 FSYNC, 12 INT, 13 VDD, 14 NC, 15 NC, 16 NC, 17 NC, 18 GND, 19 RESV, 20 CPOUT, 21 RESV, 22 RESV, 23 SCL, 24 SDA

## MPU9250
designator U?
九轴陀螺仪
footprint QFN24-3x3
pins: 1 RESV, 2 NC, 3 NC, 4 NC, 5 NC, 6 NC, 7 AUX_CL, 8 VDDIO, 9 AD0/SDO, 10 REGOUT, 11 FSYNC, 12 INT, 13 VDD, 14 NC, 15 NC, 16 NC, 17 NC, 18 GND, 19 RESV, 20 RESV, 21 AUX_DA, 22 nCS, 23 SCL/SCLK, 24 SDA/SDI

## MPX104K31C3KN15600
designator C??  (value not drawn)
安规电容; Manufacturer: KNSCHA(科尼盛); Name: 100nF; Add into BOM: yes; Subclass: X2; Value: 100nF; Tolerance: ±10%; Voltage(AC): 275V；310V；305V; Symbol: MPX104K31C3KN15600; Device: MPX104K31C3KN15600; LCSC Part Name: 等级:X2 100nF ±10% 275V 305V 310V; Supplier Part: C489079; Manufacturer Part: MPX104K31C3KN15600; Supplier Footprint: 插件,P=10mm; JLCPCB Part Class: Extended Part; Datasheet: https://atta.szlcsc.com/upload/public/pdf/source/20200225/C489079_75CB6A5338414DC85C4C6073302579B5.pdf; Supplier: LCSC; Convert to PCB: yes; Operating Temperature: -40℃~+110℃
footprint CAP-TH_L13.0-W6.0-P10.00-D0.6
pins: 1, 2

## MRICO SD
designator SD*
迷你 TF

## MT6816CT
designator U?
磁位置传感器
footprint SOP-8
pins: 1 CSN, 2 HVPP, 3 OUT, 4 VDD, 5 A/U, 6 B/V, 7 Z/W, 8 GND

## NANO SIM 7P H1.37
designator SIM?, comment SIM-1211
NANO SIM 7P H1.37 7P; Supplier Part: C7529384
footprint SIM-SMD_NANO-SIM-7P-H1.37
pins: C1 VCC, C2 RST, C3 CLK, C5 GND, C6 VPP, C7 I/O, CD

## NFD3401HGD
designator U??  (value not drawn)
发光二极管/LED,插件,l绿色D=3mm; Manufacturer: 国星光电; Add into BOM: yes; Emitted Color: 黄绿色; Power Dissipation: 200mW; Dominant Wavelength: 565nm~575nm; Viewing Angle: 30°; Symbol: NFD3401HGD; Device: NFD3401HGD; LCSC Part Name: 发光二极管/LED; Supplier Part: C20618150; Manufacturer Part: NFD3401HGD; Supplier Footprint: 插件,D=3mm; JLCPCB Part Class: Extended Part; Datasheet: https://atta.szlcsc.com/upload/public/pdf/source/20240202/3F6B05E1FEB916997D74DD660E871CB4.pdf; Supplier: LCSC; Convert to PCB: yes; Operating Temperature: -30℃~+85℃
footprint LED-TH_BD3.9-P2.54-RD
pins: 1 K, 2 A

## nSMD050
designator F??  (value not drawn)
自恢复保险丝1A 0.5A ，6V; Manufacturer: 台湾陆海; Add into BOM: yes; Operating Voltage (Max): 6V; Current Rating (Max): 100A; Hold Current: 500mA; Trip Current: 1A; Name: nSMD050; Symbol: nSMD050; Device: nSMD050; LCSC Part Name: 6V 500mA 1206自恢复; Supplier Part: C69688; Manufacturer Part: nSMD050; Supplier Footprint: 1206; JLCPCB Part Class: Extended Part; Datasheet: https://atta.szlcsc.com/upload/public/pdf/source/20160331/1459396375403.pdf; Supplier: LCSC; Convert to PCB: yes
footprint F1206
3D model F1206_L3.2-W1.7-H0.6
pins: 1, 2

## N沟道场效应管
designator Q??, comment AO3416A  (value not drawn)
N沟道场效应管 漏源电压(Vdss)：20V 连续漏极电流(Id)：6.5A 功率(Pd)：1.4W 22mΩ; Manufacturer: UMW(友台半导体); Add into BOM: yes; Type: N沟道; Drain Source Voltage (Vdss): 20V; Continuous Drain Current (Id): 6.5A; Power Dissipation (Pd): 1.4W; Drain Source On Resistance (RDS(on)@Vgs,Id): 22mΩ@4.5V,6.5A; Gate Threshold Voltage (Vgs(th)@Id): 1.1V@250uA; Name: AO3416A; Symbol: AO3416A; Device: AO3416A; LCSC Part Name: N沟道 20V 6.5A; Supplier Part: C347499; Manufacturer Part: AO3416A; Supplier Footprint: SOT-23(TO-236); JLCPCB Part Class: Extended Part; Datasheet: https://atta.szlcsc.com/upload/public/pdf/source/20220920/1BC694883941CD8D53EC6CEF7FAAF984.pdf; Supplier: LCSC; Convert to PCB: yes
footprint SOT-23-3_L3.0-W1.7-P0.95-LS2.9-BR
3D model SOT-23-3L_L2.9-W1.6-H1.1-LS2.8-P0.95
pins: 1 G, 2 S, 3 D

## OLED
designator OLED?
footprint 0.96OLED
footprint 1.3寸OLED
pins: 1 GND, 2 VCC, 3 SLC, 4 SDA
text: 3.3V; SCL

## PCA9685
designator U?
PWM扩展芯片
footprint TSSOP-28
pins: 1 A0, 2 A1, 3 A2, 4 A3, 5 A4, 6 LED0, 7 LED1, 8 LED2, 9 LED3, 10 LED4, 11 LED5, 12 LED6, 13 LED7, 14 GND, 15 LED8, 16 LED9, 17 LED10, 18 LED11, 19 LED12, 20 LED13, 21 LED14, 22 LED15, 23 ~{O}E, 24 A5, 25 EXTCLK, 26 SCL, 27 SDA, 28 VCC

## P沟道场效应管
designator Q??, comment SPP80P06PH-VB  (value not drawn)
漏源电压(Vdss)：60V 连续漏极电流(Id)：53A 功率(Pd)：104.2W 导通电阻(RDS(on)@Vgs,Id)：19mΩ@10V,30A; Manufacturer: VBsemi(微碧); Add into BOM: yes; Type: P沟道; Drain Source Voltage (Vdss): 60V; Continuous Drain Current (Id): 53A; Power Dissipation (Pd): 104.2W; Gate Threshold Voltage (Vgs(th)@Id): 3V@250uA; Name: SPP80P06PH-VB; Symbol: SPP80P06PH; Device: SPP80P06PH-VB; LCSC Part Name: P沟道 60V 53A; Supplier Part: C878809; Manufacturer Part: SPP80P06PH-VB; Supplier Footprint: TO-220AB-3; JLCPCB Part Class: Extended Part; Datasheet: https://atta.szlcsc.com/upload/public/pdf/source/20200929/C878809_766C4693FF0DA3327C10E95104D944AE.pdf; Supplier: LCSC; Convert to PCB: yes; Drain Source On Resistance (RDS(on)@Vgs,Id): 19mΩ@10V,30A
footprint TO-220AB-3_L10.3-W5.0-P2.54-L
3D model TO-220AB_3PIN-L10.5-W5.0-H20.0-P2.54
pins: 1 G, 2 D, 3 S

## R_2512
designator R?, comment R
footprint 2512_R
pins: 1, 2

## RJ45 x2
designator W?, comment 双网口-无变压器
footprint 双网口-直通
pins: 1 BLED+, 2 BLED-, 3 YLED+, 4 YLED-, 5 BLED+, 6 BLED-, 7 YLED+, 8 YLED-, 9 1, 10 2, 11 3, 12 4, 13 5, 14 6, 15 7, 16 8, 17 1, 18 2, 19 3, 20 4, 21 5, 22 6, 23 7, 24 8, 25 GND, 26 NC

## RJ45-N
designator RJ?, comment MJ5688-Y011-GRNL1  (value not drawn)
连接器 无变压器 无屏蔽; Symbol: MJ5688-Y011-GRNL1; Supplier Part: C501470
footprint RJ45-TH_MJ5688-Y011-GRNL1
pins: 1, 2, 3, 4, 5, 6, 7, 8, 9 L+, 10 L-, 11 R+, 12 R-

## RJ45_1
designator EARTHNET?, comment RJ45
大封装
footprint RJ45_Long
pins: 1 TD+, 2 TD-, 3 RD+, 4 TCT, 5 RCT, 6 RD-, 7 NC, 8 CHS GND, 9 LED(G)_A, 10 LED(G)_K, 11 LED(Y)_K, 12 LED(Y)_A, 13 SHILED, 14 SHILED

## RJ45_2
designator EARTHNET?, comment RJ45
小封装
footprint RJ45
pins: 1 TD+, 2 TD-, 3 RD+, 4 TCT, 5 RCT, 6 RD-, 7 NC, 8 CHS GND, 9 LED(Y)_-, 10 LED(Y)_+, 11 LED(G)_-, 12 LED(G)_+

## RJ45R08P-C000
designator RJ??, comment R-RJ45R08P-C000  (value not drawn)
以太网连接器RJ45; Manufacturer: Ckmtw(灿科盟); Add into BOM: yes; Connector Type: RJ45插座; Number of Ports: 1; Shielding: 有屏蔽; LED: 带LED; Supplementary Features: 鱼叉脚(塑料); Symbol: R-RJ45R08P-C000; Device: R-RJ45R08P-C000; LCSC Part Name: 弯插 带LED; Supplier Part: C386757; Manufacturer Part: R-RJ45R08P-C000; Supplier Footprint: 插件; JLCPCB Part Class: Extended Part; Datasheet: https://atta.szlcsc.com/upload/public/pdf/source/20190508/C386757_590BCC8A33AAEEF7838490D656B2E4CF.pdf; Supplier: LCSC; Convert to PCB: yes; Mounting Style: 弯插; Ratings: -; Contact Material: -; Contact Plating: -; Operating Temperature Range: 0℃~+70℃; Soldering Temperature(Max): -; PoE: -
footprint RJ45-TH_R-RJ45R08P-C000
pins: 1, 2, 3, 4, 5, 6, 7, 8, 9 L+, 10 L-, 11 R+, 12 R-, 13 S, 14 S

## RJ45x2 HR
designator RJ?, comment HR871210DE  (value not drawn)
汉人 双网口 带屏蔽带变压器; Symbol: HR871210DE; Supplier Part: C19724758
footprint RJ45-TH_HR871210DE
part A pins: 1 RD+, 2 RD-, 3 RCT, 4 TCT, 5 TD+, 6 TD-, 7 NC, 8 CHS GND, 9, 10, 11, 12, 13 SH2, 14 SH1
part B pins: P1 RD+, P2 RD-, P3 RCT, P4 TCT, P5 TD+, P6 TD-, P7 NC, P8 CHS GND, P9, P10, P11, P12
part A text: J8; 1CT:1CT; J7; J6 RX-; J5; J4; J3 RX+; J2 TX-; J1 TX+; 1000pF; 4X75 ohms; 2KV; Green LED; Yellow LED
part B text: J8; 1CT:1CT; J7; J6 RX-; J5; J4; J3 RX+; J2 TX-; J1 TX+; 1000pF; 4X75 ohms; 2KV; Green LED; Yellow LED

## RT9193-33
designator U?
3.3V超低压差LDO
footprint SOT-23-5
pins: 1 VIN, 2 GND, 3 EN, 4 BP, 5 VOUT

## SH1.0 - 4p
designator H?, comment SH1.0
footprint sh1.0   4pin (SMD,P=1mm,pin=4)
pins: 1, 2, 3, 4

## short
designator S?
短路
footprint 0603_SJ
pins: 1, 2

## SIM-1211
designator SIM?
footprint SIM-SMD_SIM-121
pins: C1 VCC, C2 RST, C3 CLK, C5 GND, C6 VPP, C7 I/O, SW1, SW2

## SMBJ58A
designator D?, comment DO-214AA(SMB)
特性：适用于表面贴装应用，以优化电路板空间。 薄型封装。 内置应力消除。 玻璃钝化结。 低电感。 出色的钳位能力。应用：I/O接口。 AC/DC电源; Supplier Part: C123824
footprint SMB_L4.6-W3.6-LS5.3-RD
pins: 1 K, 2 A

## SR560_C38272
designator D??  (value not drawn)
肖基特二极管 插件60V,5A,VF=0.7V; Manufacturer: MDD; Name: SR560; Add into BOM: yes; Symbol: SR560; Device: SR560_C38272; LCSC Part Name: SR560 编带; Supplier Part: C38272; Manufacturer Part: SR560; Supplier Footprint: DO-201AD; JLCPCB Part Class: Extended Part; Datasheet: https://atta.szlcsc.com/upload/public/pdf/source/20190305/C38272_6BCF17FB190BC02A3BD88B78418667FF.pdf; Supplier: LCSC; Convert to PCB: yes
footprint DO-201AD_BD5.3-L8.4-P12.50-D1.4-FD
3D model DO-201AD_D5.3-L8.4-P15.24
pins: 1 A, 2 K

## SS24_C50645
designator D??  (value not drawn)
肖特基二极管 0V,2A,VF=0.5V@2A; Manufacturer: MDD; Name: SS24; Add into BOM: yes; Reverse Voltage (Vr): 40V; Forward Voltage (Vf@If): 550mV@2A; Symbol: SS24; Device: SS24_C50645; LCSC Part Name: 40V 2A 550mV@2A SMA （相似料：C364270）; Supplier Part: C50645; Manufacturer Part: SS24; Supplier Footprint: SMA(DO-214AC); JLCPCB Part Class: Extended Part; Datasheet: https://atta.szlcsc.com/upload/public/pdf/source/20190304/C50645_5B6F2047F1B1EB9F2588B24BC6E81306.pdf; Supplier: LCSC; Convert to PCB: yes; Average Rectified Current (Io): 2A
footprint SMA_L4.3-W2.6-LS5.2-RD
3D model SMA_L4.3-W2.6-LS5.2-RD
pins: 1 K, 2 A

## SS-12D02-VG4_C136719
designator SW??  (value not drawn)
单刀双掷开关; Manufacturer: 韩国韩荣; Add into BOM: yes; Circuit: 单刀双掷; Mechanical Life: 5千次; Actuator Style: 矩形柱状; Pin Style: PC引脚; Switch Height: 8.7mm; Symbol: SS-12D02-VG4; Device: SS-12D02-VG4_C136719; LCSC Part Name: 直插双档 滑动开关; Supplier Part: C136719; Manufacturer Part: SS-12D02-VG4; Supplier Footprint: 插件; JLCPCB Part Class: Extended Part; Datasheet: https://atta.szlcsc.com/upload/public/pdf/source/20171030/C136719_15093664985151068208.pdf; Supplier: LCSC; Convert to PCB: yes; Current Rating (DC): -; Voltage Rating (DC): -; Current Rating (AC): -; Voltage Rating (AC): -; Mounting Style: 直插; Operating Temperature: -25℃~+70℃
footprint SW-TH_SS-12D02-VG4
pins: 1, 2, 3, 4, 5

## STLINK
designator P?, comment STLINK-PAD
footprint ha*4 (STLINK_PAD)
pins: 1 V, 2 V, 3 V, 4 V
text: C; O; -

## SV17
designator U?
MP3 播放芯片
footprint SV17
pins: 1 IO0/TX, 2 IO1/RX, 3 IO2, 4 IO3, 5 IO4/ONE_LINE, 6 IO5, 7 IO6, 8 IO7, 9 GND, 10 CON1, 11 CON2, 12 CON3/BUSY, 13 V5, 14 V33, 15 DACR, 16 DACL, 17 SPK-, 18 SPK+

## TC1508
designator U?
5V 双电机驱动
footprint TC1508S
pins: 1 NC, 2 IA, 3 IB, 4 V, 5 NC, 6 IC, 7 ID, 8 V, 9 OD, 10 G, 11 G, 12 OC, 13 OB, 14 G, 15 G, 16 OA

## TEST_p
designator T?, comment TEST
测试点
footprint TEST_p
pins: 0, 0, 0, 0

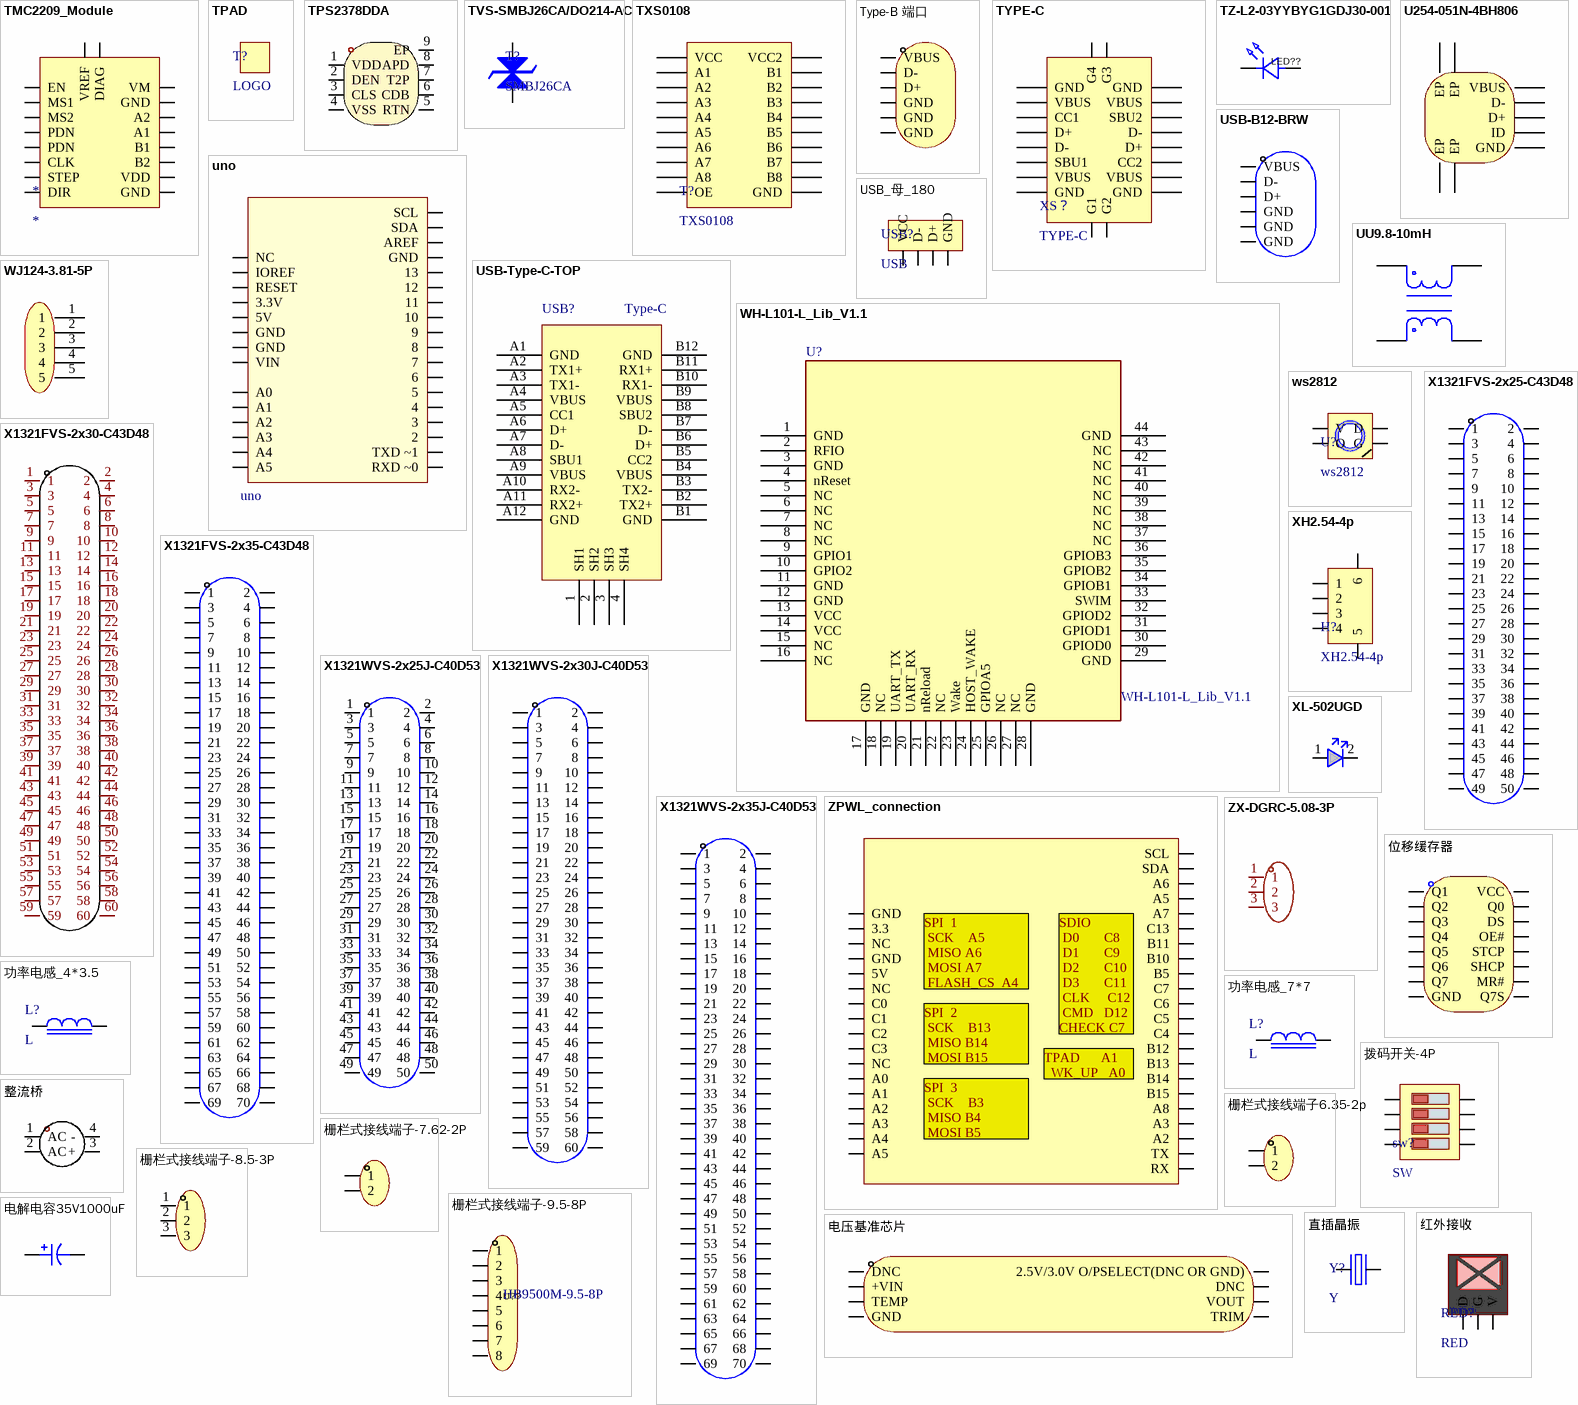
[diagram p3: symbols TMC2209_Module to 红外接收]

## TMC2209_Module
designator *
footprint TMC2209_Module
pins: 1 EN, 2 MS1, 3 MS2, 4 PDN, 5 PDN, 6 CLK, 7 STEP, 8 DIR, 9 GND, 10 VDD, 11 B2, 12 B1, 13 A1, 14 A2, 15 GND, 16 VM, 17 DIAG, 18 VREF

## TPAD
designator T?, comment LOGO
footprint PAI_LOGO

## TPS2378DDA
designator U?  (value not drawn)
SO-8-EP / TPS2378 具有 AUX 控制功能的 IEEE 802.3at PoE 高功率 PD 接口; Symbol: TPS2378DDA; Supplier Part: C544900
footprint SOIC-8_EP_150mil
pins: 1 VDD, 2 DEN, 3 CLS, 4 VSS, 5 RTN, 6 CDB, 7 T2P, 8 APD, 9 EP

## TVS-SMBJ26CA/DO214-AC
designator T?, comment SMBJ26CA
SMBJ26CA/DO214-AC; Supplier Part: C908854
footprint DO-214AA(SMB)
pins: 1, 2

## TXS0108
designator T?
footprint TSSOP20 - STM8S003
pins: 1 A1, 2 VCC, 3 A2, 4 A3, 5 A4, 6 A5, 7 A6, 8 A7, 9 A8, 10 OE, 11 GND, 12 B8, 13 B7, 14 B6, 15 B5, 16 B4, 17 B3, 18 B2, 19 VCC2, 20 B1

## Type-B 端口
designator USB??, comment USB-B12-BRW  (value not drawn)
Type-B 端口 USB 2.0 母座  4P  直插 额定电流 - 电源：1.5A; Manufacturer: XUNPU(讯普); Add into BOM: yes; Number of Contacts: 4; Number of Ports: 1; Current Rating - Power (Max): 1.5A; Welding Temperature (Max): 260℃; Name: USB-B12-BRW; Symbol: USB-B12-BRW; Device: USB-B12-BRW; LCSC Part Name: Type-B 母座 直插; Supplier Part: C720550; Manufacturer Part: USB-B12-BRW; Supplier Footprint: 插件; JLCPCB Part Class: Extended Part; Supplier: LCSC; Convert to PCB: yes; Connector Type: Type-B; Standard: USB 2.0; Gender: 母座; Mounting Style: 直插; Operating Temperature Range: -20℃~+70℃
footprint USB-B-TH_USB-B12-BRW
pins: 1 VBUS, 2 D-, 3 D+, 4 GND, 5 GND, 6 GND

## TYPE-C
designator XS？
PIN16; SuppliersPartNumber: C2765186
footprint Type-C-TOP
pins: 0 G1, 0 G2, 0 G3, 0 G4, A1B12 GND, A1B12 GND, A4B9 VBUS, A4B9 VBUS, A5 CC1, A6 D+, A7 D-, A8 SBU1, A9B4 VBUS, A9B4 VBUS, A12B1 GND, A12B1 GND, B5 CC2, B6 D+, B7 D-, B8 SBU2

## TZ-L2-03YYBYG1GDJ30-001
designator LED??  (value not drawn)
发光二极管/LED 3mm圆形灯头 绿色; Manufacturer: TUOZHAN(拓展光电); Add into BOM: yes; Emitted Color: 黄绿色; Power Dissipation: 60mW; Forward Current: 20mA; Dominant Wavelength: 570nm~575nm; Lens Color: 绿色透镜; Viewing Angle: 30°; Symbol: TZ-L2-03YYBYG1GDJ30-001; Device: TZ-L2-03YYBYG1GDJ30-001; LCSC Part Name: 普绿/黄绿; Supplier Part: C779431; Manufacturer Part: TZ-L2-03YYBYG1GDJ30-001; Supplier Footprint: 插件,D=3mm; JLCPCB Part Class: Extended Part; Datasheet: https://atta.szlcsc.com/upload/public/pdf/source/20200925/C779431_5F093B03B249EA222091E63A7DD5945E.pdf; Supplier: LCSC; Convert to PCB: yes; Lamp Holder Type: 3mm圆形灯头; Peak Wavelength: -; Diode Configuration: -; Color Temperature: -; Mounting Sytle: -; Operating Temperature: -20℃~+75℃
footprint LED-TH_BD3.8-P2.54-RD
pins: 1 K, 2 A

## U254-051N-4BH806
designator USB??  (value not drawn)
USB连接器 Micro-B  USB 2.0  母座  5P; Manufacturer: XKB Connectivity(中国星坤); Add into BOM: yes; Number of Ports: 1; Current Rating - Power (Max): 1A; Welding Temperature (Max): 260℃; Name: U254-051N-4BH806; Symbol: U254-051N-4BH806; Device: U254-051N-4BH806; LCSC Part Name: Micro-B 母座 卧贴; Supplier Part: C319170; Manufacturer Part: U254-051N-4BH806; Supplier Footprint: SMD; JLCPCB Part Class: Extended Part; Datasheet: https://atta.szlcsc.com/upload/public/pdf/source/20200227/C319170_F6FB71A4890E6895B9081D2D7B14A58F.pdf; Supplier: LCSC; Convert to PCB: yes; Connector Type: Micro-B; Standard: USB 2.0; Gender: 母座; Number of Contacts: 5P; Mounting Style: 卧贴; Contact Material: 铜合金; Contact Plating: 金; Operating Temperature Range: -40℃~+85℃
footprint MICRO-USB-SMD_U254-051N-4BH806
3D model MICRO-USB-SMD_U254-051N-4BH806
pins: 1 VBUS, 2 D-, 3 D+, 4 ID, 5 GND, 6 EP, 7 EP, 8 EP, 9 EP

## uno
designator uno
footprint UNO
pins: 1 NC, 2 IOREF, 3 RESET, 4 3.3V, 5 5V, 6 GND, 7 GND, 8 VIN, 9 A0, 10 A1, 11 A2, 12 A3, 13 A4, 14 A5, 15 RXD ~0, 16 TXD ~1, 17 2, 18 3, 19 4, 20 5, 21 6, 22 7, 23 8, 24 9, 25 10, 26 11, 27 12, 28 13, 29 GND, 30 AREF, 31 SDA, 32 SCL

## USB-B12-BRW
designator USB?  (value not drawn)
Type-B 标准：USB 2.0 公母：母座 触点数量：4P 端口数量：1 安装方式：直插 额定电流 - 电源：1.5A; Manufacturer: XUNPU(讯普); Add into BOM: yes; Gender: 母座; Number of Contacts: 4; Number of Ports: 1; Current Rating - Power (Max): 1.5A; Welding Temperature (Max): 260℃; Name: USB-B12-BRW; Symbol: USB-B12-BRW; Device: USB-B12-BRW; LCSC Part Name: Type-B 母座 直插; Supplier Part: C720550; Manufacturer Part: USB-B12-BRW; Supplier Footprint: 插件; JLCPCB Part Class: Extended Part; Supplier: LCSC; Convert to PCB: yes; Connector Type: Type-B; Standard: USB 2.0; Mounting Style: 直插; Operating Temperature Range: -20℃~+70℃
footprint USB-B-TH_USB-B12-BRW
pins: 1 VBUS, 2 D-, 3 D+, 4 GND, 5 GND, 6 GND

## USB-Type-C-TOP
designator USB?, comment Type-C
PIN24
footprint Type-C-TOP
pins: 1 SH1, 2 SH2, 3 SH3, 4 SH4, A1 GND, A2 TX1+, A3 TX1-, A4 VBUS, A5 CC1, A6 D+, A7 D-, A8 SBU1, A9 VBUS, A10 RX2-, A11 RX2+, A12 GND, B1 GND, B2 TX2+, B3 TX2-, B4 VBUS, B5 CC2, B6 D+, B7 D-, B8 SBU2, B9 VBUS, B10 RX1-, B11 RX1+, B12 GND

## USB_母_180
designator USB?, comment USB
footprint USB_母_180
pins: D+, D-, GND, VCC

## UU9.8-10mH
designator L??  (value not drawn)
共模滤波电感; Manufacturer: FH(风华); Add into BOM: yes; Number of Lines: 2; Inductance @ Frequency: 10mH@1kHz; DC Resistance (DCR): 800mΩ; Withstanding Voltage: 1kV; Name: UU9.8-10mH; Symbol: UU9.8-10MH; Device: UU9.8-10mH; LCSC Part Name: 两路 插件共模滤波器; Supplier Part: C148474; Manufacturer Part: UU9.8-10mH; Supplier Footprint: 插件; JLCPCB Part Class: Extended Part; Datasheet: https://atta.szlcsc.com/upload/public/pdf/source/20210713/C148474_656501625637B4BA0D3972AB204D3908.pdf; Supplier: LCSC; Convert to PCB: yes; Impedance @ Frequency: -; Current Rating: -; Voltage Rating - DC: -; Operating Temperature: -; Voltage Rating: -
footprint FILTER-TH_4P-L17.0-W12.0-P7.00-D0.6-S8.00
pins: 1, 2, 3, 4

## WH-L101-L_Lib_V1.1
designator U?
物联网
footprint WH-L101-L_Lib_V1.1 (WH-L101封装)
pins: 1 GND, 2 RFIO, 3 GND, 4 nReset, 5 NC, 6 NC, 7 NC, 8 NC, 9 GPIO1, 10 GPIO2, 11 GND, 12 GND, 13 VCC, 14 VCC, 15 NC, 16 NC, 17 GND, 18 NC, 19 UART_TX, 20 UART_RX, 21 nReload, 22 NC, 23 Wake, 24 HOST_WAKE, 25 GPIOA5, 26 NC, 27 NC, 28 GND, 29 GND, 30 GPIOD0, 31 GPIOD1, 32 GPIOD2, 33 SWIM, 34 GPIOB1, 35 GPIOB2, 36 GPIOB3, 37 NC, 38 NC, 39 NC, 40 NC, 41 NC, 42 NC, 43 NC, 44 GND

## WJ124-3.81-5P
designator CN??  (value not drawn)
螺钉式接线端子 3.81*n; Manufacturer: KANGNEX(康奈克斯电气); Symbol: WJ124-3.81-5P-14-00A; Add into BOM: yes; Structure: 1x5P; Pitch: 3.81mm; Current Rating (Max): 15A; Voltage Rating (Max): 300V; Wire Gauge - AWG: 14~30; Wire Gauge - mm2: 1.5; Number of PINs Per Row: 5; Device: WJ124-3.81-5P; LCSC Part Name: 3.81mm 1x5P 排数:1 每排P数:5 直插; Supplier Part: C72336; Manufacturer Part: WJ124-3.81-5P; Supplier Footprint: 插件,P=3.81mm; JLCPCB Part Class: Extended Part; Datasheet: https://atta.szlcsc.com/upload/public/pdf/source/20191225/C72336_3CFF93B54E4D4DC38C9B2AAA0F38CEF6.pdf; Supplier: LCSC; Convert to PCB: yes; Color: 绿色; Mounting Style: 直插; Number of Pins: 5P; Number of Rows: 1; Operating Temperature Range: -40℃~+105℃
footprint CONN-TH_5P-P3.81_KF124-3.81-5P
pins: 1, 2, 3, 4, 5

## ws2812
designator U?
footprint SW2812
pins: DIN D, DOUT O, GND G, VCC V

## X1321FVS-2x25-C43D48
designator U?  (value not drawn)
双排 50P 间距：1.27mm 立贴 圆孔/方孔：方孔 额定电流：1A 额定电压：250V; Manufacturer: XKB Connectivity(中国星坤); Add into BOM: yes; Pitch: 1.27mm; Holes Structure: 2x25P; Circular Hole / Square Hole: 方孔; Current Rating (Max): 1A; Voltage Rating (Max): 250V; Holes Direction: 顶部; Welding Temperature (Max): 260℃; Name: X1321FVS-2x25-C43D48; Symbol: X1321FVS-2X25-C43D48; Device: X1321FVS-2x25-C43D48; LCSC Part Name: 1.27mm 2x25P; Supplier Part: C2881872; Manufacturer Part: X1321FVS-2x25-C43D48; Supplier Footprint: SMD,P=1.27mm; JLCPCB Part Class: Extended Part; Datasheet: https://atta.szlcsc.com/upload/public/pdf/source/20211011/FC3020149D6BF5F353A6158A05565A46.pdf; Supplier: LCSC; Convert to PCB: yes; Number of Rows: 双排; Number of Holes: 50P; Row Spacing: -; Mounting Type: 立贴; Insulation Height: 4.3mm; Contact Material: 黄铜; Contact Plating: 金; Operating Temperature Range: -40℃~+105℃; link: https://atta.szlcsc.com/upload/public/pdf/source/20211011/FC3020149D6BF5F353A6158A05565A46.pdf
footprint HDR-SMD_50P-P1.27-V-F-R2-C25-LS4.8
pins: 1, 2, 3, 4, 5, 6, 7, 8, 9, 10, 11, 12, 13, 14, 15, 16, 17, 18, 19, 20, 21, 22, 23, 24, 25, 26, 27, 28, 29, 30, 31, 32, 33, 34, 35, 36, 37, 38, 39, 40, 41, 42, 43, 44, 45, 46, 47, 48, 49, 50

## X1321FVS-2x30-C43D48
designator H?, comment 1.27-2*30P立贴母  (value not drawn)
双排母 50P 间距：1.27mm 2x25P 安装类型：立贴 圆针/方针：方针 额定电流：1A 额定电压：250V; Manufacturer: BOOMELE(博穆精密); Add into BOM: yes; Number of Holes: 60P; Pitch: 1.27mm; Holes Structure: 2x30P; Name: 1.27-2*30P立贴母; Symbol: 1.27-2*30P立贴母; Device: 1.27-2*30P立贴母; LCSC Part Name: 1.27mm 2x30P; Supplier Part: C72530; Manufacturer Part: 1.27-2*30P立贴母; Supplier Footprint: SMD,P=1.27mm; JLCPCB Part Class: Extended Part; Datasheet: https://atta.szlcsc.com/upload/public/pdf/source/20210706/C72530_2AFA466D8283E90B47AD9D9080B4A735.pdf; Supplier: LCSC; Convert to PCB: yes; Number of Rows: 双排; Row Spacing: -; Mounting Type: -; Insulation Height: -; Contact Material: -; Contact Plating: -
footprint HDR-SMD_60P-P1.27-V-M-R2-C30-S1.27-LS4.8
3D model HDR-SMD_60P-P1.27-V-M-R2-C30-S1.27-LS4.8
pins: 1, 2, 3, 4, 5, 6, 7, 8, 9, 10, 11, 12, 13, 14, 15, 16, 17, 18, 19, 20, 21, 22, 23, 24, 25, 26, 27, 28, 29, 30, 31, 32, 33, 34, 35, 36, 37, 38, 39, 40, 41, 42, 43, 44, 45, 46, 47, 48, 49, 50, 51, 52, 53, 54, 55, 56, 57, 58, 59, 60

## X1321FVS-2x35-C43D48
designator U?  (value not drawn)
双排母 70P 间距：1.27mm 立贴 圆孔/方孔：方孔 额定电流：1A 额定电压：250V 插孔方向：顶部 塑高：4.3mm; Manufacturer: XKB Connectivity(中国星坤); Add into BOM: yes; Pitch: 1.27mm; Holes Structure: 2x35P; Circular Hole / Square Hole: 方孔; Current Rating (Max): 1A; Voltage Rating (Max): 250V; Holes Direction: 顶部; Welding Temperature (Max): 260℃; Name: X1321FVS-2x35-C43D48; Symbol: X1321FVS-2X35-C43D48; Device: X1321FVS-2x35-C43D48; LCSC Part Name: 1.27mm 2x35P; Supplier Part: C2881882; Manufacturer Part: X1321FVS-2x35-C43D48; Supplier Footprint: SMD,P=1.27mm; JLCPCB Part Class: Extended Part; Datasheet: https://atta.szlcsc.com/upload/public/pdf/source/20211011/FC3020149D6BF5F353A6158A05565A46.pdf; Supplier: LCSC; Convert to PCB: yes; Number of Rows: 双排; Number of Holes: 70P; Row Spacing: -; Mounting Type: 立贴; Insulation Height: 4.3mm; Contact Material: 黄铜; Contact Plating: 金; Operating Temperature Range: -40℃~+105℃
footprint HDR-SMD_70P-P1.27-V-F-R2-C35-LS4.8
pins: 1, 2, 3, 4, 5, 6, 7, 8, 9, 10, 11, 12, 13, 14, 15, 16, 17, 18, 19, 20, 21, 22, 23, 24, 25, 26, 27, 28, 29, 30, 31, 32, 33, 34, 35, 36, 37, 38, 39, 40, 41, 42, 43, 44, 45, 46, 47, 48, 49, 50, 51, 52, 53, 54, 55, 56, 57, 58, 59, 60, 61, 62, 63, 64, 65, 66, 67, 68, 69, 70

## X1321WVS-2x25J-C40D53
designator U?  (value not drawn)
双排针 50P 间距：1.27mm 2x25P 安装类型：立贴 圆针/方针：方针 额定电流：1A 额定电压：250V; Manufacturer: XKB Connectivity(中国星坤); Add into BOM: yes; Pitch: 1.27mm; Circluar Pins/Square Pins: 方针; Current Rating (Max): 1A; Voltage Rating (Max): 250V; Welding Temperature (Max): 260℃; Name: X1321WVS-2x25J-C40D53; Symbol: X1321WVS-2X25J-C40D53; Device: X1321WVS-2x25J-C40D53; LCSC Part Name: 1.27mm 2x25P 立贴 方针; Supplier Part: C2881930; Manufacturer Part: X1321WVS-2x25J-C40D53; Supplier Footprint: SMD,P=1.27mm; JLCPCB Part Class: Extended Part; Datasheet: https://atta.szlcsc.com/upload/public/pdf/source/20211011/053ED0B5930C4705FD984F451B971973.pdf; Supplier: LCSC; Convert to PCB: yes; Number of Rows: 双排; Number of Pins: 50P; Pin Structure: 2x25P; Row Spacing: -; Mounting Type: 立贴; Length of Mating Pin: 4mm; Insulation Height: 1mm; Length of End Connection Pin: -; Contact Material: 黄铜; Contact Plating: 金; Operating Temperature Range: -40℃~+105℃; Color: 黑色; link: https://atta.szlcsc.com/upload/public/pdf/source/20211011/053ED0B5930C4705FD984F451B971973.pdf
footprint HDR-SMD_50P-P1.27-V-M-R2-C25-LS5.3
pins: 1, 2, 3, 4, 5, 6, 7, 8, 9, 10, 11, 12, 13, 14, 15, 16, 17, 18, 19, 20, 21, 22, 23, 24, 25, 26, 27, 28, 29, 30, 31, 32, 33, 34, 35, 36, 37, 38, 39, 40, 41, 42, 43, 44, 45, 46, 47, 48, 49, 50